# Altium integrated library Actel IGLOO.IntLib: 429 symbols (part 11 of 45)
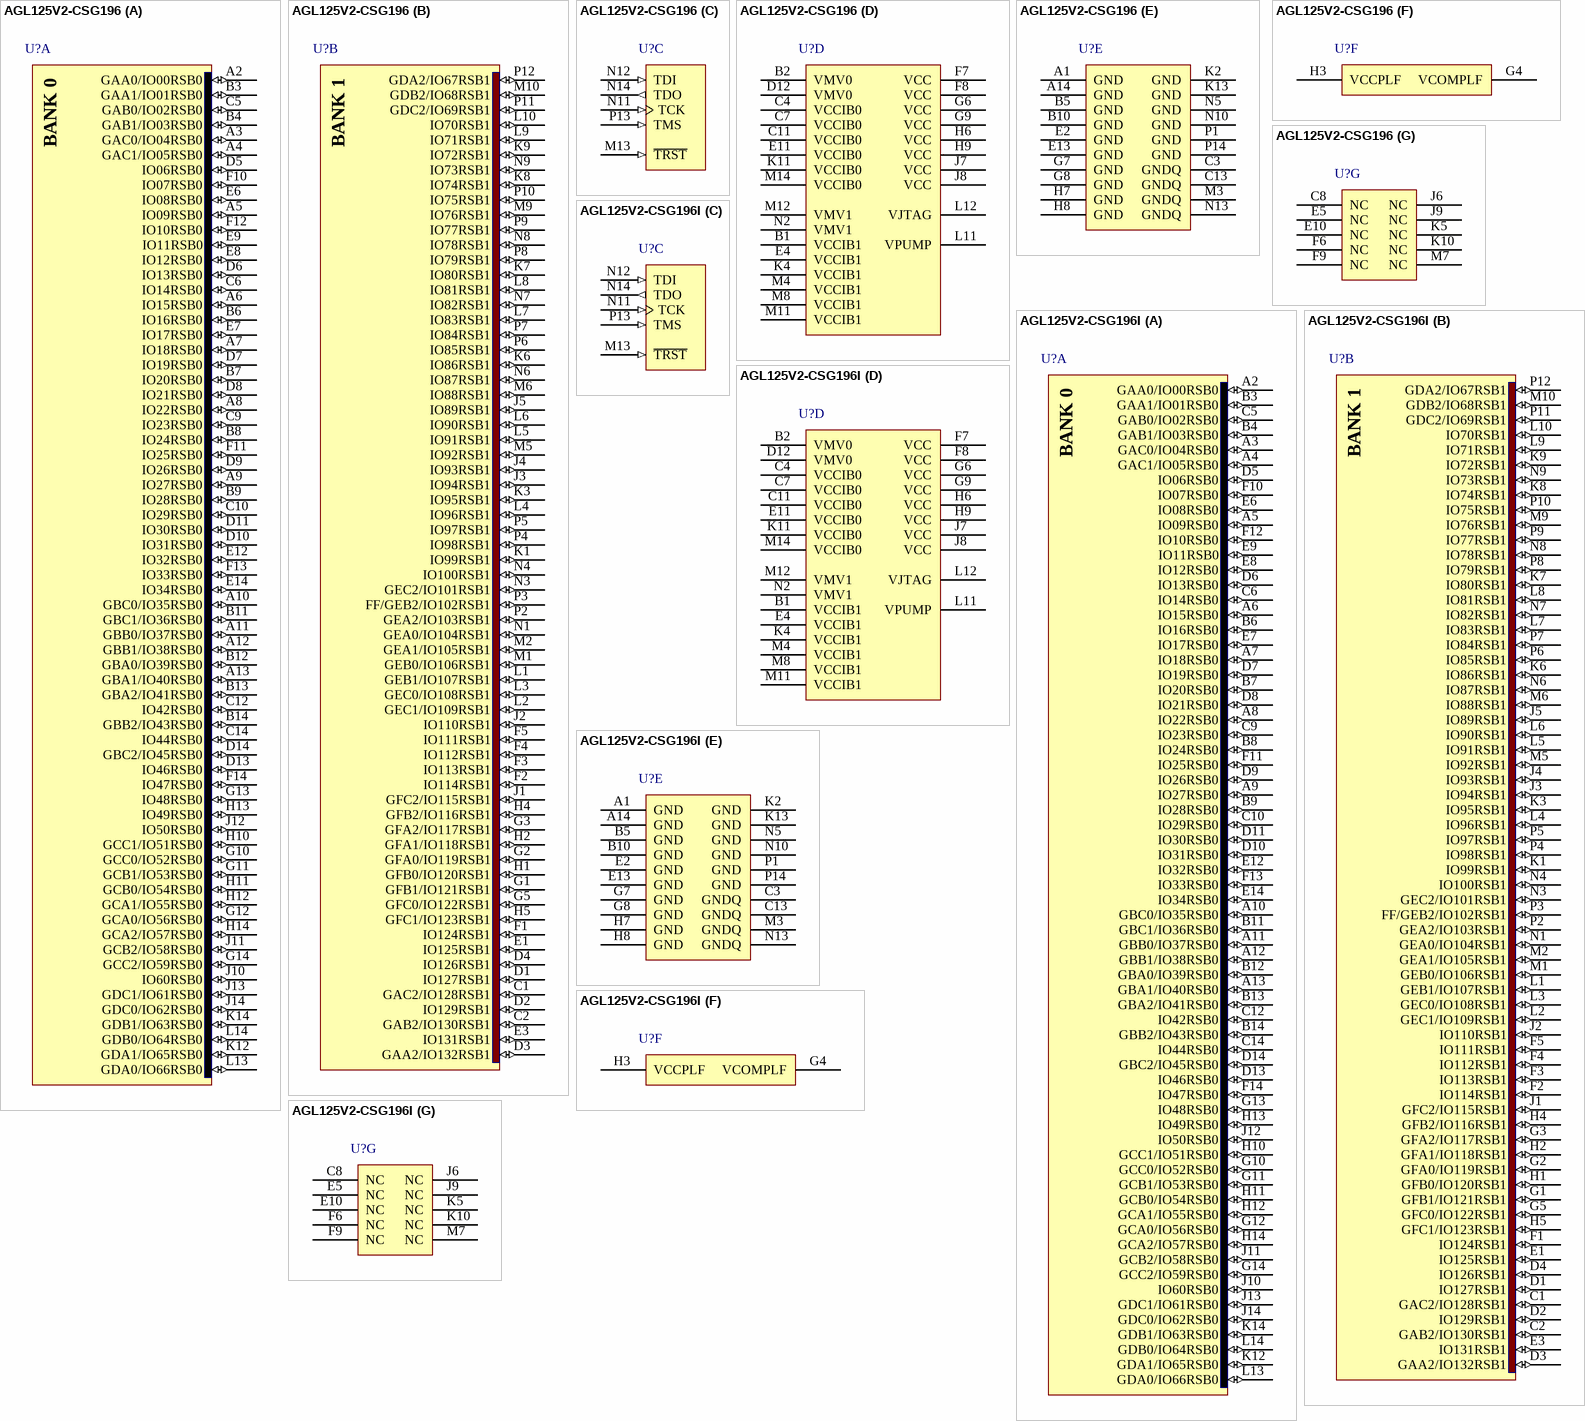
[diagram p262: symbols AGL125V2-CSG196 to AGL125V2-CSG196I]

## AGL125V2-CSG196
designator U?
IGLOO Low-Power Flash 1.2/1.5V FPGA with Flash*Freeze, 133 User IOs, 125K System Gates, 36Kbits RAM, 1Kbit Flash ROM, 1 PLL, 196-Pin CSP, Commercial Grade, Pb-Free; DatasheetVersion: v2.0, Nov-2009; PackageVersion: rev40, Jun-2011; PackageReference: CS196; PackageDescription: 196-Ball Chip Scale Ball Grid Array 0.5 mm Pitch (CS196); Code_JEDEC: MO-195-BE; ComponentLink1Description: Manufacturer URL; ComponentLink1URL: http://www.actel.com/; ComponentLink2Description: IGLOO Datasheet; ComponentLink2URL: http://www.actel.com/documents/IGLOO_DS.pdf; ComponentLink3Description: Package Mechanical Drawings; ComponentLink3URL: http://www.actel.com/documents/PckgMechDrwngs.pdf; ComponentLink4Description: IGLOO Documents; ComponentLink4URL: http://www.actel.com/products/igloo/docs.aspx
footprint CS196 (BGA, 196-Leads, Body 8x8mm, Pitch 0.5mm)
part A pins: A2 GAA0/IO00RSB0 (io), A3 GAC0/IO04RSB0 (io), A4 GAC1/IO05RSB0 (io), A5 IO09RSB0 (io), A6 IO15RSB0 (io), A7 IO18RSB0 (io), A8 IO22RSB0 (io), A9 IO27RSB0 (io), A10 GBC0/IO35RSB0 (io), A11 GBB0/IO37RSB0 (io), A12 GBB1/IO38RSB0 (io), A13 GBA1/IO40RSB0 (io), B3 GAA1/IO01RSB0 (io), B4 GAB1/IO03RSB0 (io), B6 IO16RSB0 (io), B7 IO20RSB0 (io), B8 IO24RSB0 (io), B9 IO28RSB0 (io), B11 GBC1/IO36RSB0 (io), B12 GBA0/IO39RSB0 (io), B13 GBA2/IO41RSB0 (io), B14 GBB2/IO43RSB0 (io), C5 GAB0/IO02RSB0 (io), C6 IO14RSB0 (io), C9 IO23RSB0 (io), C10 IO29RSB0 (io), C12 IO42RSB0 (io), C14 IO44RSB0 (io), D5 IO06RSB0 (io), D6 IO13RSB0 (io), D7 IO19RSB0 (io), D8 IO21RSB0 (io), D9 IO26RSB0 (io), D10 IO31RSB0 (io), D11 IO30RSB0 (io), D13 IO46RSB0 (io), D14 GBC2/IO45RSB0 (io), E6 IO08RSB0 (io), E7 IO17RSB0 (io), E8 IO12RSB0 (io), E9 IO11RSB0 (io), E12 IO32RSB0 (io), E14 IO34RSB0 (io), F10 IO07RSB0 (io), F11 IO25RSB0 (io), F12 IO10RSB0 (io), F13 IO33RSB0 (io), F14 IO47RSB0 (io), G10 GCC0/IO52RSB0 (io), G11 GCB1/IO53RSB0 (io), G12 GCA0/IO56RSB0 (io), G13 IO48RSB0 (io), G14 GCC2/IO59RSB0 (io), H10 GCC1/IO51RSB0 (io), H11 GCB0/IO54RSB0 (io), H12 GCA1/IO55RSB0 (io), H13 IO49RSB0 (io), H14 GCA2/IO57RSB0 (io), J10 IO60RSB0 (io), J11 GCB2/IO58RSB0 (io), J12 IO50RSB0 (io), J13 GDC1/IO61RSB0 (io), J14 GDC0/IO62RSB0 (io), K12 GDA1/IO65RSB0 (io), K14 GDB1/IO63RSB0 (io), L13 GDA0/IO66RSB0 (io), L14 GDB0/IO64RSB0 (io)
part B pins: C1 GAC2/IO128RSB1 (io), C2 GAB2/IO130RSB1 (io), D1 IO127RSB1 (io), D2 IO129RSB1 (io), D3 GAA2/IO132RSB1 (io), D4 IO126RSB1 (io), E1 IO125RSB1 (io), E3 IO131RSB1 (io), F1 IO124RSB1 (io), F2 IO114RSB1 (io), F3 IO113RSB1 (io), F4 IO112RSB1 (io), F5 IO111RSB1 (io), G1 GFB1/IO121RSB1 (io), G2 GFA0/IO119RSB1 (io), G3 GFA2/IO117RSB1 (io), G5 GFC0/IO122RSB1 (io), H1 GFB0/IO120RSB1 (io), H2 GFA1/IO118RSB1 (io), H4 GFB2/IO116RSB1 (io), H5 GFC1/IO123RSB1 (io), J1 GFC2/IO115RSB1 (io), J2 IO110RSB1 (io), J3 IO94RSB1 (io), J4 IO93RSB1 (io), J5 IO89RSB1 (io), K1 IO99RSB1 (io), K3 IO95RSB1 (io), K6 IO86RSB1 (io), K7 IO80RSB1 (io), K8 IO74RSB1 (io), K9 IO72RSB1 (io), L1 GEB1/IO107RSB1 (io), L2 GEC1/IO109RSB1 (io), L3 GEC0/IO108RSB1 (io), L4 IO96RSB1 (io), L5 IO91RSB1 (io), L6 IO90RSB1 (io), L7 IO83RSB1 (io), L8 IO81RSB1 (io), L9 IO71RSB1 (io), L10 IO70RSB1 (io), M1 GEB0/IO106RSB1 (io), M2 GEA1/IO105RSB1 (io), M5 IO92RSB1 (io), M6 IO88RSB1 (io), M9 IO76RSB1 (io), M10 GDB2/IO68RSB1 (io), N1 GEA0/IO104RSB1 (io), N3 GEC2/IO101RSB1 (io), N4 IO100RSB1 (io), N6 IO87RSB1 (io), N7 IO82RSB1 (io), N8 IO78RSB1 (io), N9 IO73RSB1 (io), P2 GEA2/IO103RSB1 (io), P3 FF/GEB2/IO102RSB1 (io), P4 IO98RSB1 (io), P5 IO97RSB1 (io), P6 IO85RSB1 (io), P7 IO84RSB1 (io), P8 IO79RSB1 (io), P9 IO77RSB1 (io), P10 IO75RSB1 (io), P11 GDC2/IO69RSB1 (io), P12 GDA2/IO67RSB1 (io)
part C pins: M13 ~{TRST} (in), N11 TCK (in), N12 TDI (in), N14 TDO (out), P13 TMS (in)
part D pins: B1 VCCIB1 (power), B2 VMV0 (power), C4 VCCIB0 (power), C7 VCCIB0 (power), C11 VCCIB0 (power), D12 VMV0 (power), E4 VCCIB1 (power), E11 VCCIB0 (power), F7 VCC (power), F8 VCC (power), G6 VCC (power), G9 VCC (power), H6 VCC (power), H9 VCC (power), J7 VCC (power), J8 VCC (power), K4 VCCIB1 (power), K11 VCCIB0 (power), L11 VPUMP (power), L12 VJTAG (power), M4 VCCIB1 (power), M8 VCCIB1 (power), M11 VCCIB1 (power), M12 VMV1 (power), M14 VCCIB0 (power), N2 VMV1 (power)
part E pins: A1 GND (power), A14 GND (power), B5 GND (power), B10 GND (power), C3 GNDQ (power), C13 GNDQ (power), E2 GND (power), E13 GND (power), G7 GND (power), G8 GND (power), H7 GND (power), H8 GND (power), K2 GND (power), K13 GND (power), M3 GNDQ (power), N5 GND (power), N10 GND (power), N13 GNDQ (power), P1 GND (power), P14 GND (power)
part F pins: G4 VCOMPLF (power), H3 VCCPLF (power)
part G pins: C8 NC, E5 NC, E10 NC, F6 NC, F9 NC, J6 NC, J9 NC, K5 NC, K10 NC, M7 NC
part A text: BANK 0
part B text: BANK 1

## AGL125V2-CSG196I
designator U?
IGLOO Low-Power Flash 1.2/1.5V FPGA with Flash*Freeze, 133 User IOs, 125K System Gates, 36Kbits RAM, 1Kbit Flash ROM, 1 PLL, 196-Pin CSP, Industrial Grade, Pb-Free; DatasheetVersion: v2.0, Nov-2009; PackageVersion: rev40, Jun-2011; PackageReference: CS196; PackageDescription: 196-Ball Chip Scale Ball Grid Array 0.5 mm Pitch (CS196); Code_JEDEC: MO-195-BE; ComponentLink1Description: Manufacturer URL; ComponentLink1URL: http://www.actel.com/; ComponentLink2Description: IGLOO Datasheet; ComponentLink2URL: http://www.actel.com/documents/IGLOO_DS.pdf; ComponentLink3Description: Package Mechanical Drawings; ComponentLink3URL: http://www.actel.com/documents/PckgMechDrwngs.pdf; ComponentLink4Description: IGLOO Documents; ComponentLink4URL: http://www.actel.com/products/igloo/docs.aspx
footprint CS196 (BGA, 196-Leads, Body 8x8mm, Pitch 0.5mm)
part A pins: A2 GAA0/IO00RSB0 (io), A3 GAC0/IO04RSB0 (io), A4 GAC1/IO05RSB0 (io), A5 IO09RSB0 (io), A6 IO15RSB0 (io), A7 IO18RSB0 (io), A8 IO22RSB0 (io), A9 IO27RSB0 (io), A10 GBC0/IO35RSB0 (io), A11 GBB0/IO37RSB0 (io), A12 GBB1/IO38RSB0 (io), A13 GBA1/IO40RSB0 (io), B3 GAA1/IO01RSB0 (io), B4 GAB1/IO03RSB0 (io), B6 IO16RSB0 (io), B7 IO20RSB0 (io), B8 IO24RSB0 (io), B9 IO28RSB0 (io), B11 GBC1/IO36RSB0 (io), B12 GBA0/IO39RSB0 (io), B13 GBA2/IO41RSB0 (io), B14 GBB2/IO43RSB0 (io), C5 GAB0/IO02RSB0 (io), C6 IO14RSB0 (io), C9 IO23RSB0 (io), C10 IO29RSB0 (io), C12 IO42RSB0 (io), C14 IO44RSB0 (io), D5 IO06RSB0 (io), D6 IO13RSB0 (io), D7 IO19RSB0 (io), D8 IO21RSB0 (io), D9 IO26RSB0 (io), D10 IO31RSB0 (io), D11 IO30RSB0 (io), D13 IO46RSB0 (io), D14 GBC2/IO45RSB0 (io), E6 IO08RSB0 (io), E7 IO17RSB0 (io), E8 IO12RSB0 (io), E9 IO11RSB0 (io), E12 IO32RSB0 (io), E14 IO34RSB0 (io), F10 IO07RSB0 (io), F11 IO25RSB0 (io), F12 IO10RSB0 (io), F13 IO33RSB0 (io), F14 IO47RSB0 (io), G10 GCC0/IO52RSB0 (io), G11 GCB1/IO53RSB0 (io), G12 GCA0/IO56RSB0 (io), G13 IO48RSB0 (io), G14 GCC2/IO59RSB0 (io), H10 GCC1/IO51RSB0 (io), H11 GCB0/IO54RSB0 (io), H12 GCA1/IO55RSB0 (io), H13 IO49RSB0 (io), H14 GCA2/IO57RSB0 (io), J10 IO60RSB0 (io), J11 GCB2/IO58RSB0 (io), J12 IO50RSB0 (io), J13 GDC1/IO61RSB0 (io), J14 GDC0/IO62RSB0 (io), K12 GDA1/IO65RSB0 (io), K14 GDB1/IO63RSB0 (io), L13 GDA0/IO66RSB0 (io), L14 GDB0/IO64RSB0 (io)
part B pins: C1 GAC2/IO128RSB1 (io), C2 GAB2/IO130RSB1 (io), D1 IO127RSB1 (io), D2 IO129RSB1 (io), D3 GAA2/IO132RSB1 (io), D4 IO126RSB1 (io), E1 IO125RSB1 (io), E3 IO131RSB1 (io), F1 IO124RSB1 (io), F2 IO114RSB1 (io), F3 IO113RSB1 (io), F4 IO112RSB1 (io), F5 IO111RSB1 (io), G1 GFB1/IO121RSB1 (io), G2 GFA0/IO119RSB1 (io), G3 GFA2/IO117RSB1 (io), G5 GFC0/IO122RSB1 (io), H1 GFB0/IO120RSB1 (io), H2 GFA1/IO118RSB1 (io), H4 GFB2/IO116RSB1 (io), H5 GFC1/IO123RSB1 (io), J1 GFC2/IO115RSB1 (io), J2 IO110RSB1 (io), J3 IO94RSB1 (io), J4 IO93RSB1 (io), J5 IO89RSB1 (io), K1 IO99RSB1 (io), K3 IO95RSB1 (io), K6 IO86RSB1 (io), K7 IO80RSB1 (io), K8 IO74RSB1 (io), K9 IO72RSB1 (io), L1 GEB1/IO107RSB1 (io), L2 GEC1/IO109RSB1 (io), L3 GEC0/IO108RSB1 (io), L4 IO96RSB1 (io), L5 IO91RSB1 (io), L6 IO90RSB1 (io), L7 IO83RSB1 (io), L8 IO81RSB1 (io), L9 IO71RSB1 (io), L10 IO70RSB1 (io), M1 GEB0/IO106RSB1 (io), M2 GEA1/IO105RSB1 (io), M5 IO92RSB1 (io), M6 IO88RSB1 (io), M9 IO76RSB1 (io), M10 GDB2/IO68RSB1 (io), N1 GEA0/IO104RSB1 (io), N3 GEC2/IO101RSB1 (io), N4 IO100RSB1 (io), N6 IO87RSB1 (io), N7 IO82RSB1 (io), N8 IO78RSB1 (io), N9 IO73RSB1 (io), P2 GEA2/IO103RSB1 (io), P3 FF/GEB2/IO102RSB1 (io), P4 IO98RSB1 (io), P5 IO97RSB1 (io), P6 IO85RSB1 (io), P7 IO84RSB1 (io), P8 IO79RSB1 (io), P9 IO77RSB1 (io), P10 IO75RSB1 (io), P11 GDC2/IO69RSB1 (io), P12 GDA2/IO67RSB1 (io)
part C pins: M13 ~{TRST} (in), N11 TCK (in), N12 TDI (in), N14 TDO (out), P13 TMS (in)
part D pins: B1 VCCIB1 (power), B2 VMV0 (power), C4 VCCIB0 (power), C7 VCCIB0 (power), C11 VCCIB0 (power), D12 VMV0 (power), E4 VCCIB1 (power), E11 VCCIB0 (power), F7 VCC (power), F8 VCC (power), G6 VCC (power), G9 VCC (power), H6 VCC (power), H9 VCC (power), J7 VCC (power), J8 VCC (power), K4 VCCIB1 (power), K11 VCCIB0 (power), L11 VPUMP (power), L12 VJTAG (power), M4 VCCIB1 (power), M8 VCCIB1 (power), M11 VCCIB1 (power), M12 VMV1 (power), M14 VCCIB0 (power), N2 VMV1 (power)
part E pins: A1 GND (power), A14 GND (power), B5 GND (power), B10 GND (power), C3 GNDQ (power), C13 GNDQ (power), E2 GND (power), E13 GND (power), G7 GND (power), G8 GND (power), H7 GND (power), H8 GND (power), K2 GND (power), K13 GND (power), M3 GNDQ (power), N5 GND (power), N10 GND (power), N13 GNDQ (power), P1 GND (power), P14 GND (power)
part F pins: G4 VCOMPLF (power), H3 VCCPLF (power)
part G pins: C8 NC, E5 NC, E10 NC, F6 NC, F9 NC, J6 NC, J9 NC, K5 NC, K10 NC, M7 NC
part A text: BANK 0
part B text: BANK 1

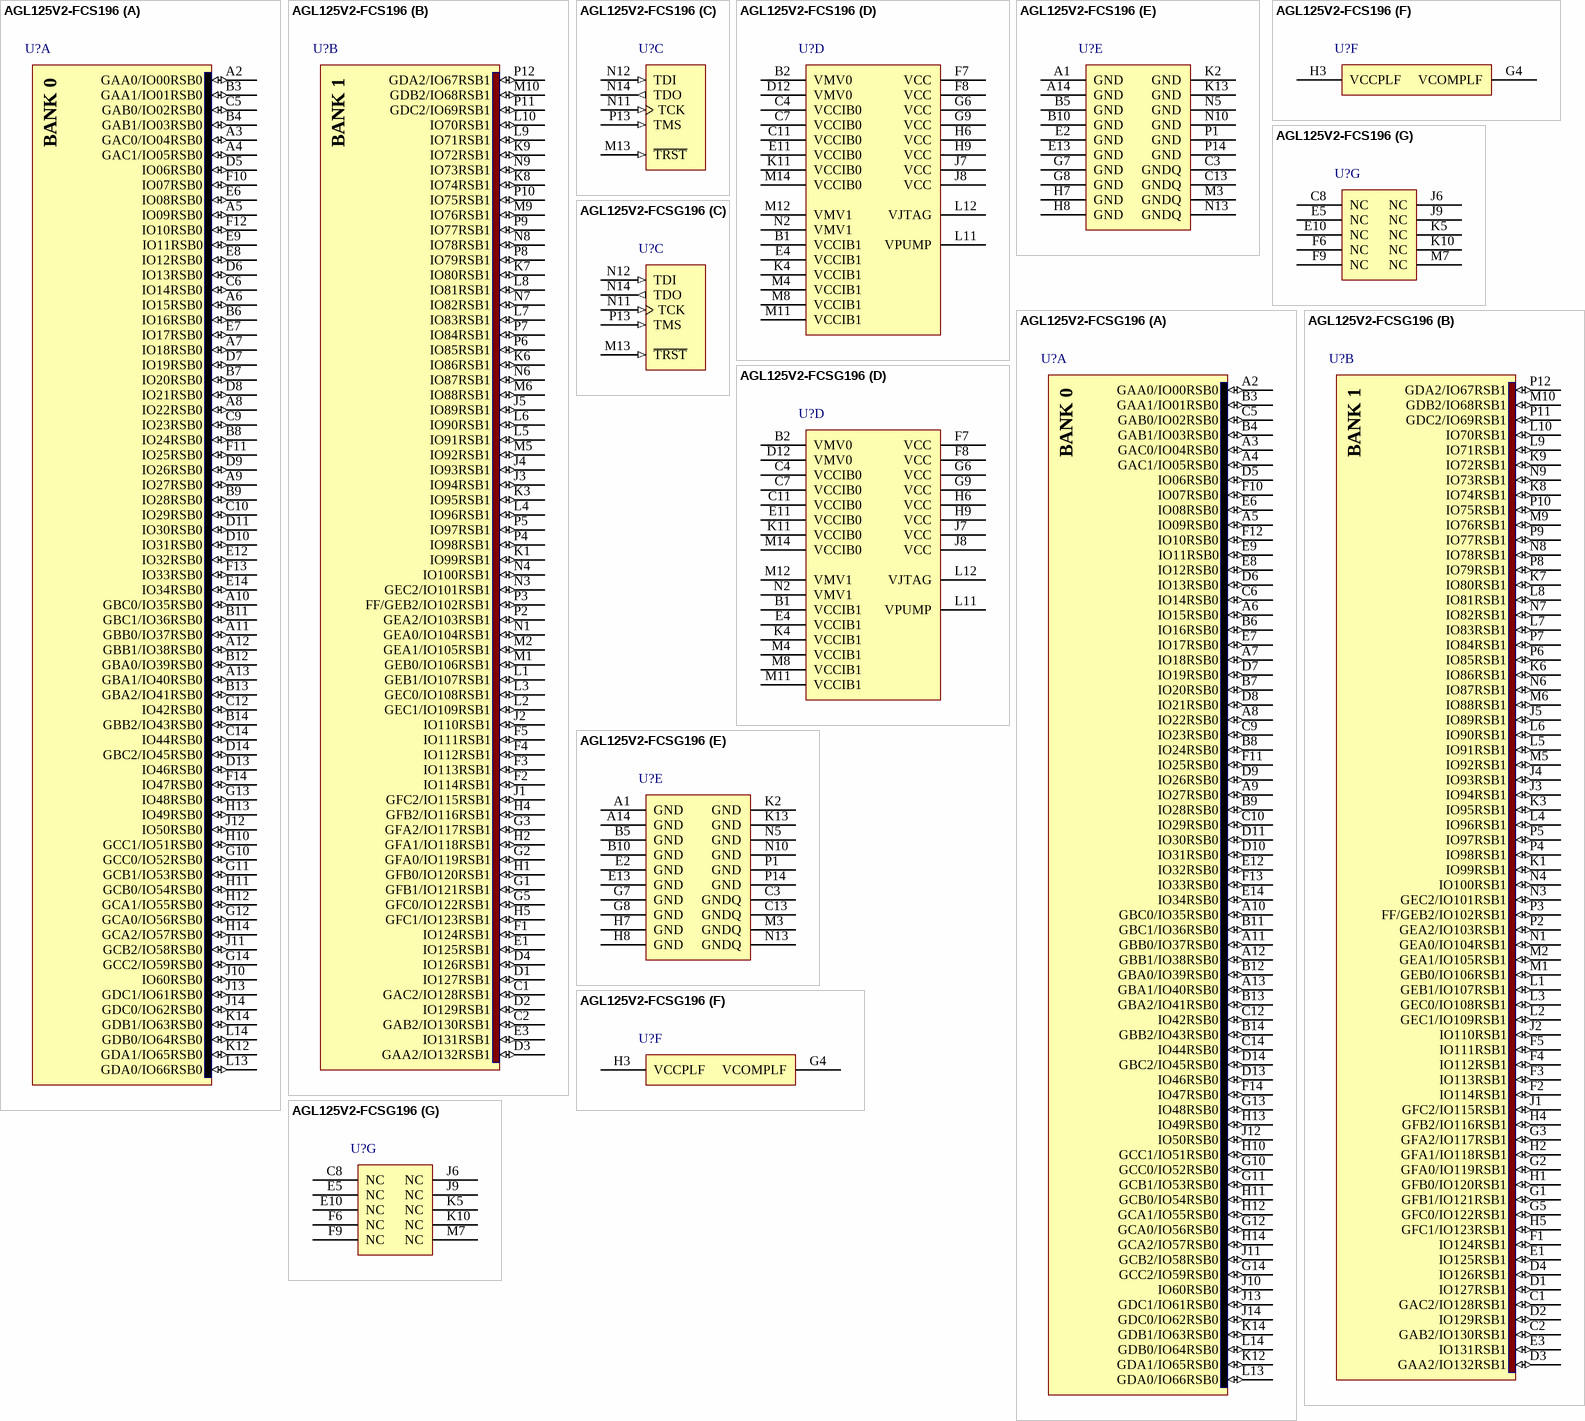
[diagram p33: symbols AGL125V2-FCS196 to AGL125V2-FCSG196]

## AGL125V2-FCS196
designator U?
IGLOO Low-Power Flash 1.2/1.5V FPGA with Flash*Freeze, 133 User IOs, 125K System Gates, 36Kbits RAM, 1Kbit Flash ROM, 1 PLL, 196-Pin CSP, F Speed Grade, Commercial Grade; DatasheetVersion: v1.2, Feb-2008; PackageVersion: rev40, Jun-2011; PackageReference: CS196; PackageDescription: 196-Ball Chip Scale Ball Grid Array 0.5 mm Pitch (CS196); Code_JEDEC: MO-195-BE; ComponentLink1Description: Manufacturer URL; ComponentLink1URL: http://www.actel.com/; ComponentLink2Description: IGLOO Datasheet; ComponentLink2URL: http://www.actel.com/documents/IGLOO_DS.pdf; ComponentLink3Description: Package Mechanical Drawings; ComponentLink3URL: http://www.actel.com/documents/PckgMechDrwngs.pdf; ComponentLink4Description: IGLOO Documents; ComponentLink4URL: http://www.actel.com/products/igloo/docs.aspx
footprint CS196 (BGA, 196-Leads, Body 8x8mm, Pitch 0.5mm)
part A pins: A2 GAA0/IO00RSB0 (io), A3 GAC0/IO04RSB0 (io), A4 GAC1/IO05RSB0 (io), A5 IO09RSB0 (io), A6 IO15RSB0 (io), A7 IO18RSB0 (io), A8 IO22RSB0 (io), A9 IO27RSB0 (io), A10 GBC0/IO35RSB0 (io), A11 GBB0/IO37RSB0 (io), A12 GBB1/IO38RSB0 (io), A13 GBA1/IO40RSB0 (io), B3 GAA1/IO01RSB0 (io), B4 GAB1/IO03RSB0 (io), B6 IO16RSB0 (io), B7 IO20RSB0 (io), B8 IO24RSB0 (io), B9 IO28RSB0 (io), B11 GBC1/IO36RSB0 (io), B12 GBA0/IO39RSB0 (io), B13 GBA2/IO41RSB0 (io), B14 GBB2/IO43RSB0 (io), C5 GAB0/IO02RSB0 (io), C6 IO14RSB0 (io), C9 IO23RSB0 (io), C10 IO29RSB0 (io), C12 IO42RSB0 (io), C14 IO44RSB0 (io), D5 IO06RSB0 (io), D6 IO13RSB0 (io), D7 IO19RSB0 (io), D8 IO21RSB0 (io), D9 IO26RSB0 (io), D10 IO31RSB0 (io), D11 IO30RSB0 (io), D13 IO46RSB0 (io), D14 GBC2/IO45RSB0 (io), E6 IO08RSB0 (io), E7 IO17RSB0 (io), E8 IO12RSB0 (io), E9 IO11RSB0 (io), E12 IO32RSB0 (io), E14 IO34RSB0 (io), F10 IO07RSB0 (io), F11 IO25RSB0 (io), F12 IO10RSB0 (io), F13 IO33RSB0 (io), F14 IO47RSB0 (io), G10 GCC0/IO52RSB0 (io), G11 GCB1/IO53RSB0 (io), G12 GCA0/IO56RSB0 (io), G13 IO48RSB0 (io), G14 GCC2/IO59RSB0 (io), H10 GCC1/IO51RSB0 (io), H11 GCB0/IO54RSB0 (io), H12 GCA1/IO55RSB0 (io), H13 IO49RSB0 (io), H14 GCA2/IO57RSB0 (io), J10 IO60RSB0 (io), J11 GCB2/IO58RSB0 (io), J12 IO50RSB0 (io), J13 GDC1/IO61RSB0 (io), J14 GDC0/IO62RSB0 (io), K12 GDA1/IO65RSB0 (io), K14 GDB1/IO63RSB0 (io), L13 GDA0/IO66RSB0 (io), L14 GDB0/IO64RSB0 (io)
part B pins: C1 GAC2/IO128RSB1 (io), C2 GAB2/IO130RSB1 (io), D1 IO127RSB1 (io), D2 IO129RSB1 (io), D3 GAA2/IO132RSB1 (io), D4 IO126RSB1 (io), E1 IO125RSB1 (io), E3 IO131RSB1 (io), F1 IO124RSB1 (io), F2 IO114RSB1 (io), F3 IO113RSB1 (io), F4 IO112RSB1 (io), F5 IO111RSB1 (io), G1 GFB1/IO121RSB1 (io), G2 GFA0/IO119RSB1 (io), G3 GFA2/IO117RSB1 (io), G5 GFC0/IO122RSB1 (io), H1 GFB0/IO120RSB1 (io), H2 GFA1/IO118RSB1 (io), H4 GFB2/IO116RSB1 (io), H5 GFC1/IO123RSB1 (io), J1 GFC2/IO115RSB1 (io), J2 IO110RSB1 (io), J3 IO94RSB1 (io), J4 IO93RSB1 (io), J5 IO89RSB1 (io), K1 IO99RSB1 (io), K3 IO95RSB1 (io), K6 IO86RSB1 (io), K7 IO80RSB1 (io), K8 IO74RSB1 (io), K9 IO72RSB1 (io), L1 GEB1/IO107RSB1 (io), L2 GEC1/IO109RSB1 (io), L3 GEC0/IO108RSB1 (io), L4 IO96RSB1 (io), L5 IO91RSB1 (io), L6 IO90RSB1 (io), L7 IO83RSB1 (io), L8 IO81RSB1 (io), L9 IO71RSB1 (io), L10 IO70RSB1 (io), M1 GEB0/IO106RSB1 (io), M2 GEA1/IO105RSB1 (io), M5 IO92RSB1 (io), M6 IO88RSB1 (io), M9 IO76RSB1 (io), M10 GDB2/IO68RSB1 (io), N1 GEA0/IO104RSB1 (io), N3 GEC2/IO101RSB1 (io), N4 IO100RSB1 (io), N6 IO87RSB1 (io), N7 IO82RSB1 (io), N8 IO78RSB1 (io), N9 IO73RSB1 (io), P2 GEA2/IO103RSB1 (io), P3 FF/GEB2/IO102RSB1 (io), P4 IO98RSB1 (io), P5 IO97RSB1 (io), P6 IO85RSB1 (io), P7 IO84RSB1 (io), P8 IO79RSB1 (io), P9 IO77RSB1 (io), P10 IO75RSB1 (io), P11 GDC2/IO69RSB1 (io), P12 GDA2/IO67RSB1 (io)
part C pins: M13 ~{TRST} (in), N11 TCK (in), N12 TDI (in), N14 TDO (out), P13 TMS (in)
part D pins: B1 VCCIB1 (power), B2 VMV0 (power), C4 VCCIB0 (power), C7 VCCIB0 (power), C11 VCCIB0 (power), D12 VMV0 (power), E4 VCCIB1 (power), E11 VCCIB0 (power), F7 VCC (power), F8 VCC (power), G6 VCC (power), G9 VCC (power), H6 VCC (power), H9 VCC (power), J7 VCC (power), J8 VCC (power), K4 VCCIB1 (power), K11 VCCIB0 (power), L11 VPUMP (power), L12 VJTAG (power), M4 VCCIB1 (power), M8 VCCIB1 (power), M11 VCCIB1 (power), M12 VMV1 (power), M14 VCCIB0 (power), N2 VMV1 (power)
part E pins: A1 GND (power), A14 GND (power), B5 GND (power), B10 GND (power), C3 GNDQ (power), C13 GNDQ (power), E2 GND (power), E13 GND (power), G7 GND (power), G8 GND (power), H7 GND (power), H8 GND (power), K2 GND (power), K13 GND (power), M3 GNDQ (power), N5 GND (power), N10 GND (power), N13 GNDQ (power), P1 GND (power), P14 GND (power)
part F pins: G4 VCOMPLF (power), H3 VCCPLF (power)
part G pins: C8 NC, E5 NC, E10 NC, F6 NC, F9 NC, J6 NC, J9 NC, K5 NC, K10 NC, M7 NC
part A text: BANK 0
part B text: BANK 1

## AGL125V2-FCSG196
designator U?
IGLOO Low-Power Flash 1.2/1.5V FPGA with Flash*Freeze, 133 User IOs, 125K System Gates, 36Kbits RAM, 1Kbit Flash ROM, 1 PLL, 196-Pin CSP, F Speed Grade, Commercial Grade, Pb-Free; DatasheetVersion: v1.2, Feb-2008; PackageVersion: rev40, Jun-2011; PackageReference: CS196; PackageDescription: 196-Ball Chip Scale Ball Grid Array 0.5 mm Pitch (CS196); Code_JEDEC: MO-195-BE; ComponentLink1Description: Manufacturer URL; ComponentLink1URL: http://www.actel.com/; ComponentLink2Description: IGLOO Datasheet; ComponentLink2URL: http://www.actel.com/documents/IGLOO_DS.pdf; ComponentLink3Description: Package Mechanical Drawings; ComponentLink3URL: http://www.actel.com/documents/PckgMechDrwngs.pdf; ComponentLink4Description: IGLOO Documents; ComponentLink4URL: http://www.actel.com/products/igloo/docs.aspx
footprint CS196 (BGA, 196-Leads, Body 8x8mm, Pitch 0.5mm)
part A pins: A2 GAA0/IO00RSB0 (io), A3 GAC0/IO04RSB0 (io), A4 GAC1/IO05RSB0 (io), A5 IO09RSB0 (io), A6 IO15RSB0 (io), A7 IO18RSB0 (io), A8 IO22RSB0 (io), A9 IO27RSB0 (io), A10 GBC0/IO35RSB0 (io), A11 GBB0/IO37RSB0 (io), A12 GBB1/IO38RSB0 (io), A13 GBA1/IO40RSB0 (io), B3 GAA1/IO01RSB0 (io), B4 GAB1/IO03RSB0 (io), B6 IO16RSB0 (io), B7 IO20RSB0 (io), B8 IO24RSB0 (io), B9 IO28RSB0 (io), B11 GBC1/IO36RSB0 (io), B12 GBA0/IO39RSB0 (io), B13 GBA2/IO41RSB0 (io), B14 GBB2/IO43RSB0 (io), C5 GAB0/IO02RSB0 (io), C6 IO14RSB0 (io), C9 IO23RSB0 (io), C10 IO29RSB0 (io), C12 IO42RSB0 (io), C14 IO44RSB0 (io), D5 IO06RSB0 (io), D6 IO13RSB0 (io), D7 IO19RSB0 (io), D8 IO21RSB0 (io), D9 IO26RSB0 (io), D10 IO31RSB0 (io), D11 IO30RSB0 (io), D13 IO46RSB0 (io), D14 GBC2/IO45RSB0 (io), E6 IO08RSB0 (io), E7 IO17RSB0 (io), E8 IO12RSB0 (io), E9 IO11RSB0 (io), E12 IO32RSB0 (io), E14 IO34RSB0 (io), F10 IO07RSB0 (io), F11 IO25RSB0 (io), F12 IO10RSB0 (io), F13 IO33RSB0 (io), F14 IO47RSB0 (io), G10 GCC0/IO52RSB0 (io), G11 GCB1/IO53RSB0 (io), G12 GCA0/IO56RSB0 (io), G13 IO48RSB0 (io), G14 GCC2/IO59RSB0 (io), H10 GCC1/IO51RSB0 (io), H11 GCB0/IO54RSB0 (io), H12 GCA1/IO55RSB0 (io), H13 IO49RSB0 (io), H14 GCA2/IO57RSB0 (io), J10 IO60RSB0 (io), J11 GCB2/IO58RSB0 (io), J12 IO50RSB0 (io), J13 GDC1/IO61RSB0 (io), J14 GDC0/IO62RSB0 (io), K12 GDA1/IO65RSB0 (io), K14 GDB1/IO63RSB0 (io), L13 GDA0/IO66RSB0 (io), L14 GDB0/IO64RSB0 (io)
part B pins: C1 GAC2/IO128RSB1 (io), C2 GAB2/IO130RSB1 (io), D1 IO127RSB1 (io), D2 IO129RSB1 (io), D3 GAA2/IO132RSB1 (io), D4 IO126RSB1 (io), E1 IO125RSB1 (io), E3 IO131RSB1 (io), F1 IO124RSB1 (io), F2 IO114RSB1 (io), F3 IO113RSB1 (io), F4 IO112RSB1 (io), F5 IO111RSB1 (io), G1 GFB1/IO121RSB1 (io), G2 GFA0/IO119RSB1 (io), G3 GFA2/IO117RSB1 (io), G5 GFC0/IO122RSB1 (io), H1 GFB0/IO120RSB1 (io), H2 GFA1/IO118RSB1 (io), H4 GFB2/IO116RSB1 (io), H5 GFC1/IO123RSB1 (io), J1 GFC2/IO115RSB1 (io), J2 IO110RSB1 (io), J3 IO94RSB1 (io), J4 IO93RSB1 (io), J5 IO89RSB1 (io), K1 IO99RSB1 (io), K3 IO95RSB1 (io), K6 IO86RSB1 (io), K7 IO80RSB1 (io), K8 IO74RSB1 (io), K9 IO72RSB1 (io), L1 GEB1/IO107RSB1 (io), L2 GEC1/IO109RSB1 (io), L3 GEC0/IO108RSB1 (io), L4 IO96RSB1 (io), L5 IO91RSB1 (io), L6 IO90RSB1 (io), L7 IO83RSB1 (io), L8 IO81RSB1 (io), L9 IO71RSB1 (io), L10 IO70RSB1 (io), M1 GEB0/IO106RSB1 (io), M2 GEA1/IO105RSB1 (io), M5 IO92RSB1 (io), M6 IO88RSB1 (io), M9 IO76RSB1 (io), M10 GDB2/IO68RSB1 (io), N1 GEA0/IO104RSB1 (io), N3 GEC2/IO101RSB1 (io), N4 IO100RSB1 (io), N6 IO87RSB1 (io), N7 IO82RSB1 (io), N8 IO78RSB1 (io), N9 IO73RSB1 (io), P2 GEA2/IO103RSB1 (io), P3 FF/GEB2/IO102RSB1 (io), P4 IO98RSB1 (io), P5 IO97RSB1 (io), P6 IO85RSB1 (io), P7 IO84RSB1 (io), P8 IO79RSB1 (io), P9 IO77RSB1 (io), P10 IO75RSB1 (io), P11 GDC2/IO69RSB1 (io), P12 GDA2/IO67RSB1 (io)
part C pins: M13 ~{TRST} (in), N11 TCK (in), N12 TDI (in), N14 TDO (out), P13 TMS (in)
part D pins: B1 VCCIB1 (power), B2 VMV0 (power), C4 VCCIB0 (power), C7 VCCIB0 (power), C11 VCCIB0 (power), D12 VMV0 (power), E4 VCCIB1 (power), E11 VCCIB0 (power), F7 VCC (power), F8 VCC (power), G6 VCC (power), G9 VCC (power), H6 VCC (power), H9 VCC (power), J7 VCC (power), J8 VCC (power), K4 VCCIB1 (power), K11 VCCIB0 (power), L11 VPUMP (power), L12 VJTAG (power), M4 VCCIB1 (power), M8 VCCIB1 (power), M11 VCCIB1 (power), M12 VMV1 (power), M14 VCCIB0 (power), N2 VMV1 (power)
part E pins: A1 GND (power), A14 GND (power), B5 GND (power), B10 GND (power), C3 GNDQ (power), C13 GNDQ (power), E2 GND (power), E13 GND (power), G7 GND (power), G8 GND (power), H7 GND (power), H8 GND (power), K2 GND (power), K13 GND (power), M3 GNDQ (power), N5 GND (power), N10 GND (power), N13 GNDQ (power), P1 GND (power), P14 GND (power)
part F pins: G4 VCOMPLF (power), H3 VCCPLF (power)
part G pins: C8 NC, E5 NC, E10 NC, F6 NC, F9 NC, J6 NC, J9 NC, K5 NC, K10 NC, M7 NC
part A text: BANK 0
part B text: BANK 1

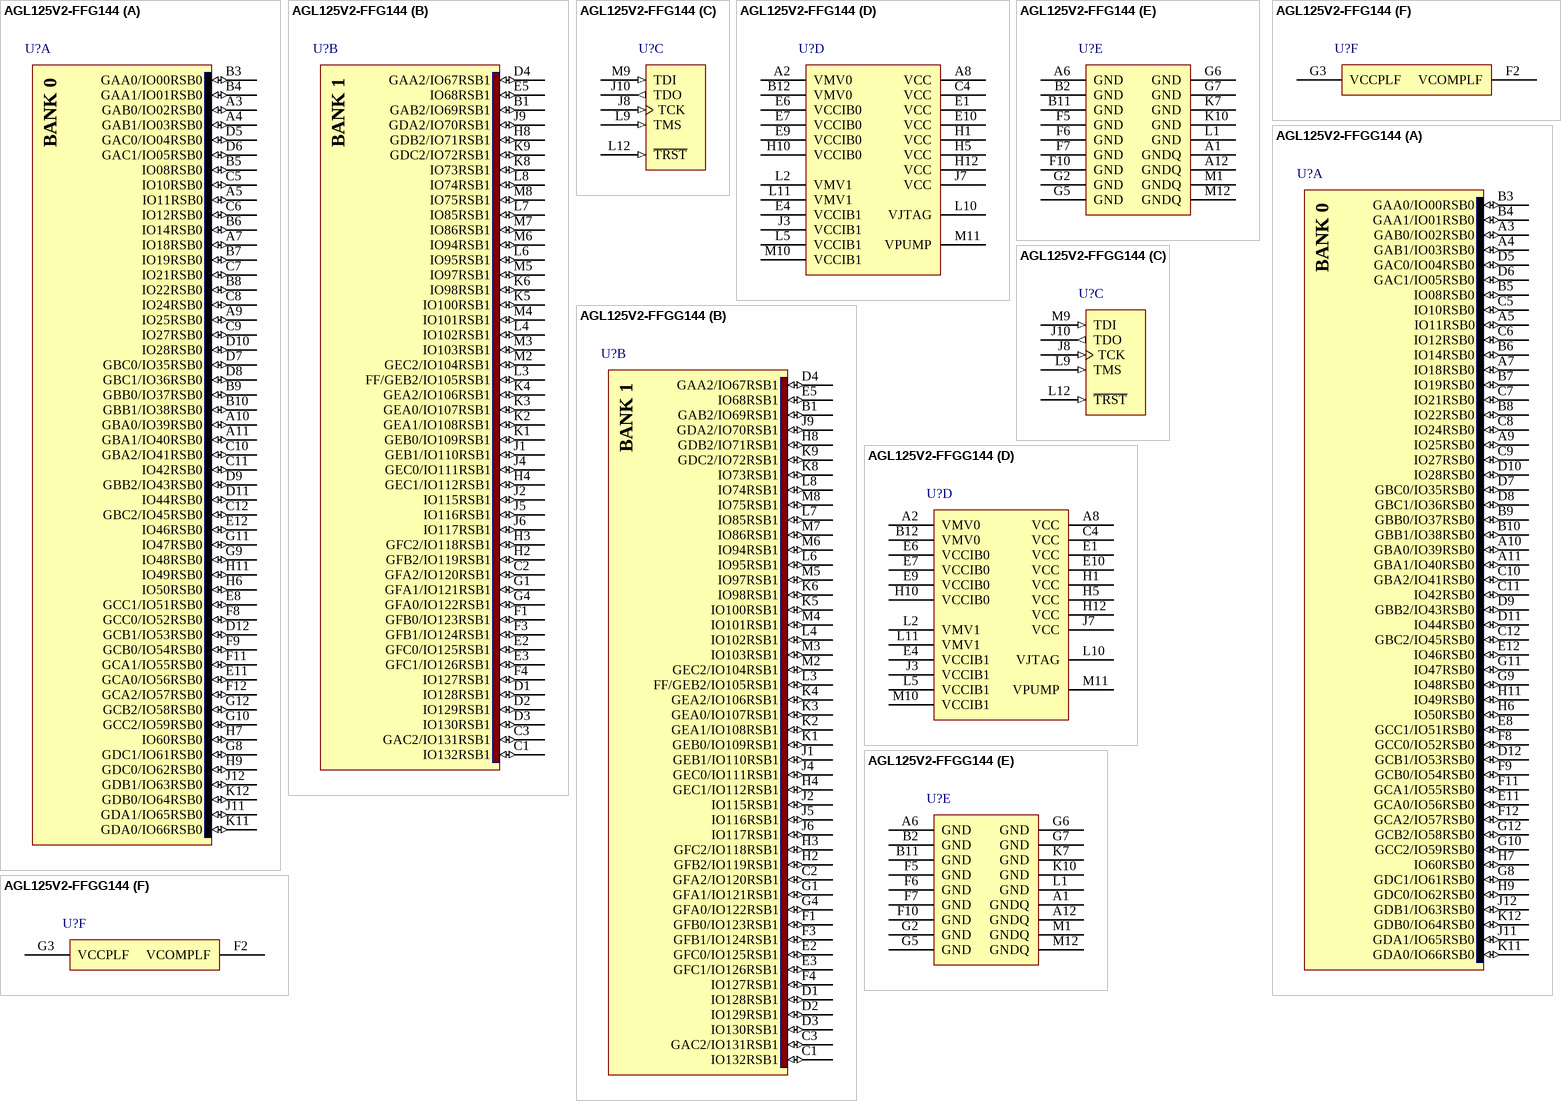
[diagram p34: symbols AGL125V2-FFG144 to AGL125V2-FFGG144]

## AGL125V2-FFG144
designator U?
IGLOO Low-Power Flash 1.2/1.5V FPGA with Flash*Freeze, 97 User IOs, 125K System Gates, 36Kbits RAM, 1Kbit Flash ROM, 1 PLL, 144-Pin FBGA, F Speed Grade, Commercial Grade; DatasheetVersion: v1.2, Feb-2008; PackageVersion: rev39, Aug-2010; PackageReference: FG144; PackageDescription: 144-Ball Fine Pitch Plastic Ball Grid Array (FG144); Code_JEDEC: MO-192-DAD-1; ComponentLink1Description: Manufacturer URL; ComponentLink1URL: http://www.actel.com/; ComponentLink2Description: IGLOO Datasheet; ComponentLink2URL: http://www.actel.com/documents/IGLOO_DS.pdf; ComponentLink3Description: Package Mechanical Drawings; ComponentLink3URL: http://www.actel.com/documents/PckgMechDrwngs.pdf; ComponentLink4Description: IGLOO Documents; ComponentLink4URL: http://www.actel.com/products/igloo/docs.aspx
footprint FG144 (BGA, 144-Leads, Body 13x13mm, Pitch 1mm)
part A pins: A3 GAB0/IO02RSB0 (io), A4 GAB1/IO03RSB0 (io), A5 IO11RSB0 (io), A7 IO18RSB0 (io), A9 IO25RSB0 (io), A10 GBA0/IO39RSB0 (io), A11 GBA1/IO40RSB0 (io), B3 GAA0/IO00RSB0 (io), B4 GAA1/IO01RSB0 (io), B5 IO08RSB0 (io), B6 IO14RSB0 (io), B7 IO19RSB0 (io), B8 IO22RSB0 (io), B9 GBB0/IO37RSB0 (io), B10 GBB1/IO38RSB0 (io), C5 IO10RSB0 (io), C6 IO12RSB0 (io), C7 IO21RSB0 (io), C8 IO24RSB0 (io), C9 IO27RSB0 (io), C10 GBA2/IO41RSB0 (io), C11 IO42RSB0 (io), C12 GBC2/IO45RSB0 (io), D5 GAC0/IO04RSB0 (io), D6 GAC1/IO05RSB0 (io), D7 GBC0/IO35RSB0 (io), D8 GBC1/IO36RSB0 (io), D9 GBB2/IO43RSB0 (io), D10 IO28RSB0 (io), D11 IO44RSB0 (io), D12 GCB1/IO53RSB0 (io), E8 GCC1/IO51RSB0 (io), E11 GCA0/IO56RSB0 (io), E12 IO46RSB0 (io), F8 GCC0/IO52RSB0 (io), F9 GCB0/IO54RSB0 (io), F11 GCA1/IO55RSB0 (io), F12 GCA2/IO57RSB0 (io), G8 GDC1/IO61RSB0 (io), G9 IO48RSB0 (io), G10 GCC2/IO59RSB0 (io), G11 IO47RSB0 (io), G12 GCB2/IO58RSB0 (io), H6 IO50RSB0 (io), H7 IO60RSB0 (io), H9 GDC0/IO62RSB0 (io), H11 IO49RSB0 (io), J11 GDA1/IO65RSB0 (io), J12 GDB1/IO63RSB0 (io), K11 GDA0/IO66RSB0 (io), K12 GDB0/IO64RSB0 (io)
part B pins: B1 GAB2/IO69RSB1 (io), C1 IO132RSB1 (io), C2 GFA2/IO120RSB1 (io), C3 GAC2/IO131RSB1 (io), D1 IO128RSB1 (io), D2 IO129RSB1 (io), D3 IO130RSB1 (io), D4 GAA2/IO67RSB1 (io), E2 GFC0/IO125RSB1 (io), E3 GFC1/IO126RSB1 (io), E5 IO68RSB1 (io), F1 GFB0/IO123RSB1 (io), F3 GFB1/IO124RSB1 (io), F4 IO127RSB1 (io), G1 GFA1/IO121RSB1 (io), G4 GFA0/IO122RSB1 (io), H2 GFB2/IO119RSB1 (io), H3 GFC2/IO118RSB1 (io), H4 GEC1/IO112RSB1 (io), H8 GDB2/IO71RSB1 (io), J1 GEB1/IO110RSB1 (io), J2 IO115RSB1 (io), J4 GEC0/IO111RSB1 (io), J5 IO116RSB1 (io), J6 IO117RSB1 (io), J9 GDA2/IO70RSB1 (io), K1 GEB0/IO109RSB1 (io), K2 GEA1/IO108RSB1 (io), K3 GEA0/IO107RSB1 (io), K4 GEA2/IO106RSB1 (io), K5 IO100RSB1 (io), K6 IO98RSB1 (io), K8 IO73RSB1 (io), K9 GDC2/IO72RSB1 (io), L3 FF/GEB2/IO105RSB1 (io), L4 IO102RSB1 (io), L6 IO95RSB1 (io), L7 IO85RSB1 (io), L8 IO74RSB1 (io), M2 GEC2/IO104RSB1 (io), M3 IO103RSB1 (io), M4 IO101RSB1 (io), M5 IO97RSB1 (io), M6 IO94RSB1 (io), M7 IO86RSB1 (io), M8 IO75RSB1 (io)
part C pins: J8 TCK (in), J10 TDO (out), L9 TMS (in), L12 ~{TRST} (in), M9 TDI (in)
part D pins: A2 VMV0 (power), A8 VCC (power), B12 VMV0 (power), C4 VCC (power), E1 VCC (power), E4 VCCIB1 (power), E6 VCCIB0 (power), E7 VCCIB0 (power), E9 VCCIB0 (power), E10 VCC (power), H1 VCC (power), H5 VCC (power), H10 VCCIB0 (power), H12 VCC (power), J3 VCCIB1 (power), J7 VCC (power), L2 VMV1 (power), L5 VCCIB1 (power), L10 VJTAG (power), L11 VMV1 (power), M10 VCCIB1 (power), M11 VPUMP (power)
part E pins: A1 GNDQ (power), A6 GND (power), A12 GNDQ (power), B2 GND (power), B11 GND (power), F5 GND (power), F6 GND (power), F7 GND (power), F10 GND (power), G2 GND (power), G5 GND (power), G6 GND (power), G7 GND (power), K7 GND (power), K10 GND (power), L1 GND (power), M1 GNDQ (power), M12 GNDQ (power)
part F pins: F2 VCOMPLF (power), G3 VCCPLF (power)
part A text: BANK 0
part B text: BANK 1

## AGL125V2-FFGG144
designator U?
IGLOO Low-Power Flash 1.2/1.5V FPGA with Flash*Freeze, 97 User IOs, 125K System Gates, 36Kbits RAM, 1Kbit Flash ROM, 1 PLL, 144-Pin FBGA, F Speed Grade, Commercial Grade, Pb-Free; DatasheetVersion: v1.2, Feb-2008; PackageVersion: rev39, Aug-2010; PackageReference: FG144; PackageDescription: 144-Ball Fine Pitch Plastic Ball Grid Array (FG144); Code_JEDEC: MO-192-DAD-1; ComponentLink1Description: Manufacturer URL; ComponentLink1URL: http://www.actel.com/; ComponentLink2Description: IGLOO Datasheet; ComponentLink2URL: http://www.actel.com/documents/IGLOO_DS.pdf; ComponentLink3Description: Package Mechanical Drawings; ComponentLink3URL: http://www.actel.com/documents/PckgMechDrwngs.pdf; ComponentLink4Description: IGLOO Documents; ComponentLink4URL: http://www.actel.com/products/igloo/docs.aspx
footprint FG144 (BGA, 144-Leads, Body 13x13mm, Pitch 1mm)
part A pins: A3 GAB0/IO02RSB0 (io), A4 GAB1/IO03RSB0 (io), A5 IO11RSB0 (io), A7 IO18RSB0 (io), A9 IO25RSB0 (io), A10 GBA0/IO39RSB0 (io), A11 GBA1/IO40RSB0 (io), B3 GAA0/IO00RSB0 (io), B4 GAA1/IO01RSB0 (io), B5 IO08RSB0 (io), B6 IO14RSB0 (io), B7 IO19RSB0 (io), B8 IO22RSB0 (io), B9 GBB0/IO37RSB0 (io), B10 GBB1/IO38RSB0 (io), C5 IO10RSB0 (io), C6 IO12RSB0 (io), C7 IO21RSB0 (io), C8 IO24RSB0 (io), C9 IO27RSB0 (io), C10 GBA2/IO41RSB0 (io), C11 IO42RSB0 (io), C12 GBC2/IO45RSB0 (io), D5 GAC0/IO04RSB0 (io), D6 GAC1/IO05RSB0 (io), D7 GBC0/IO35RSB0 (io), D8 GBC1/IO36RSB0 (io), D9 GBB2/IO43RSB0 (io), D10 IO28RSB0 (io), D11 IO44RSB0 (io), D12 GCB1/IO53RSB0 (io), E8 GCC1/IO51RSB0 (io), E11 GCA0/IO56RSB0 (io), E12 IO46RSB0 (io), F8 GCC0/IO52RSB0 (io), F9 GCB0/IO54RSB0 (io), F11 GCA1/IO55RSB0 (io), F12 GCA2/IO57RSB0 (io), G8 GDC1/IO61RSB0 (io), G9 IO48RSB0 (io), G10 GCC2/IO59RSB0 (io), G11 IO47RSB0 (io), G12 GCB2/IO58RSB0 (io), H6 IO50RSB0 (io), H7 IO60RSB0 (io), H9 GDC0/IO62RSB0 (io), H11 IO49RSB0 (io), J11 GDA1/IO65RSB0 (io), J12 GDB1/IO63RSB0 (io), K11 GDA0/IO66RSB0 (io), K12 GDB0/IO64RSB0 (io)
part B pins: B1 GAB2/IO69RSB1 (io), C1 IO132RSB1 (io), C2 GFA2/IO120RSB1 (io), C3 GAC2/IO131RSB1 (io), D1 IO128RSB1 (io), D2 IO129RSB1 (io), D3 IO130RSB1 (io), D4 GAA2/IO67RSB1 (io), E2 GFC0/IO125RSB1 (io), E3 GFC1/IO126RSB1 (io), E5 IO68RSB1 (io), F1 GFB0/IO123RSB1 (io), F3 GFB1/IO124RSB1 (io), F4 IO127RSB1 (io), G1 GFA1/IO121RSB1 (io), G4 GFA0/IO122RSB1 (io), H2 GFB2/IO119RSB1 (io), H3 GFC2/IO118RSB1 (io), H4 GEC1/IO112RSB1 (io), H8 GDB2/IO71RSB1 (io), J1 GEB1/IO110RSB1 (io), J2 IO115RSB1 (io), J4 GEC0/IO111RSB1 (io), J5 IO116RSB1 (io), J6 IO117RSB1 (io), J9 GDA2/IO70RSB1 (io), K1 GEB0/IO109RSB1 (io), K2 GEA1/IO108RSB1 (io), K3 GEA0/IO107RSB1 (io), K4 GEA2/IO106RSB1 (io), K5 IO100RSB1 (io), K6 IO98RSB1 (io), K8 IO73RSB1 (io), K9 GDC2/IO72RSB1 (io), L3 FF/GEB2/IO105RSB1 (io), L4 IO102RSB1 (io), L6 IO95RSB1 (io), L7 IO85RSB1 (io), L8 IO74RSB1 (io), M2 GEC2/IO104RSB1 (io), M3 IO103RSB1 (io), M4 IO101RSB1 (io), M5 IO97RSB1 (io), M6 IO94RSB1 (io), M7 IO86RSB1 (io), M8 IO75RSB1 (io)
part C pins: J8 TCK (in), J10 TDO (out), L9 TMS (in), L12 ~{TRST} (in), M9 TDI (in)
part D pins: A2 VMV0 (power), A8 VCC (power), B12 VMV0 (power), C4 VCC (power), E1 VCC (power), E4 VCCIB1 (power), E6 VCCIB0 (power), E7 VCCIB0 (power), E9 VCCIB0 (power), E10 VCC (power), H1 VCC (power), H5 VCC (power), H10 VCCIB0 (power), H12 VCC (power), J3 VCCIB1 (power), J7 VCC (power), L2 VMV1 (power), L5 VCCIB1 (power), L10 VJTAG (power), L11 VMV1 (power), M10 VCCIB1 (power), M11 VPUMP (power)
part E pins: A1 GNDQ (power), A6 GND (power), A12 GNDQ (power), B2 GND (power), B11 GND (power), F5 GND (power), F6 GND (power), F7 GND (power), F10 GND (power), G2 GND (power), G5 GND (power), G6 GND (power), G7 GND (power), K7 GND (power), K10 GND (power), L1 GND (power), M1 GNDQ (power), M12 GNDQ (power)
part F pins: F2 VCOMPLF (power), G3 VCCPLF (power)
part A text: BANK 0
part B text: BANK 1

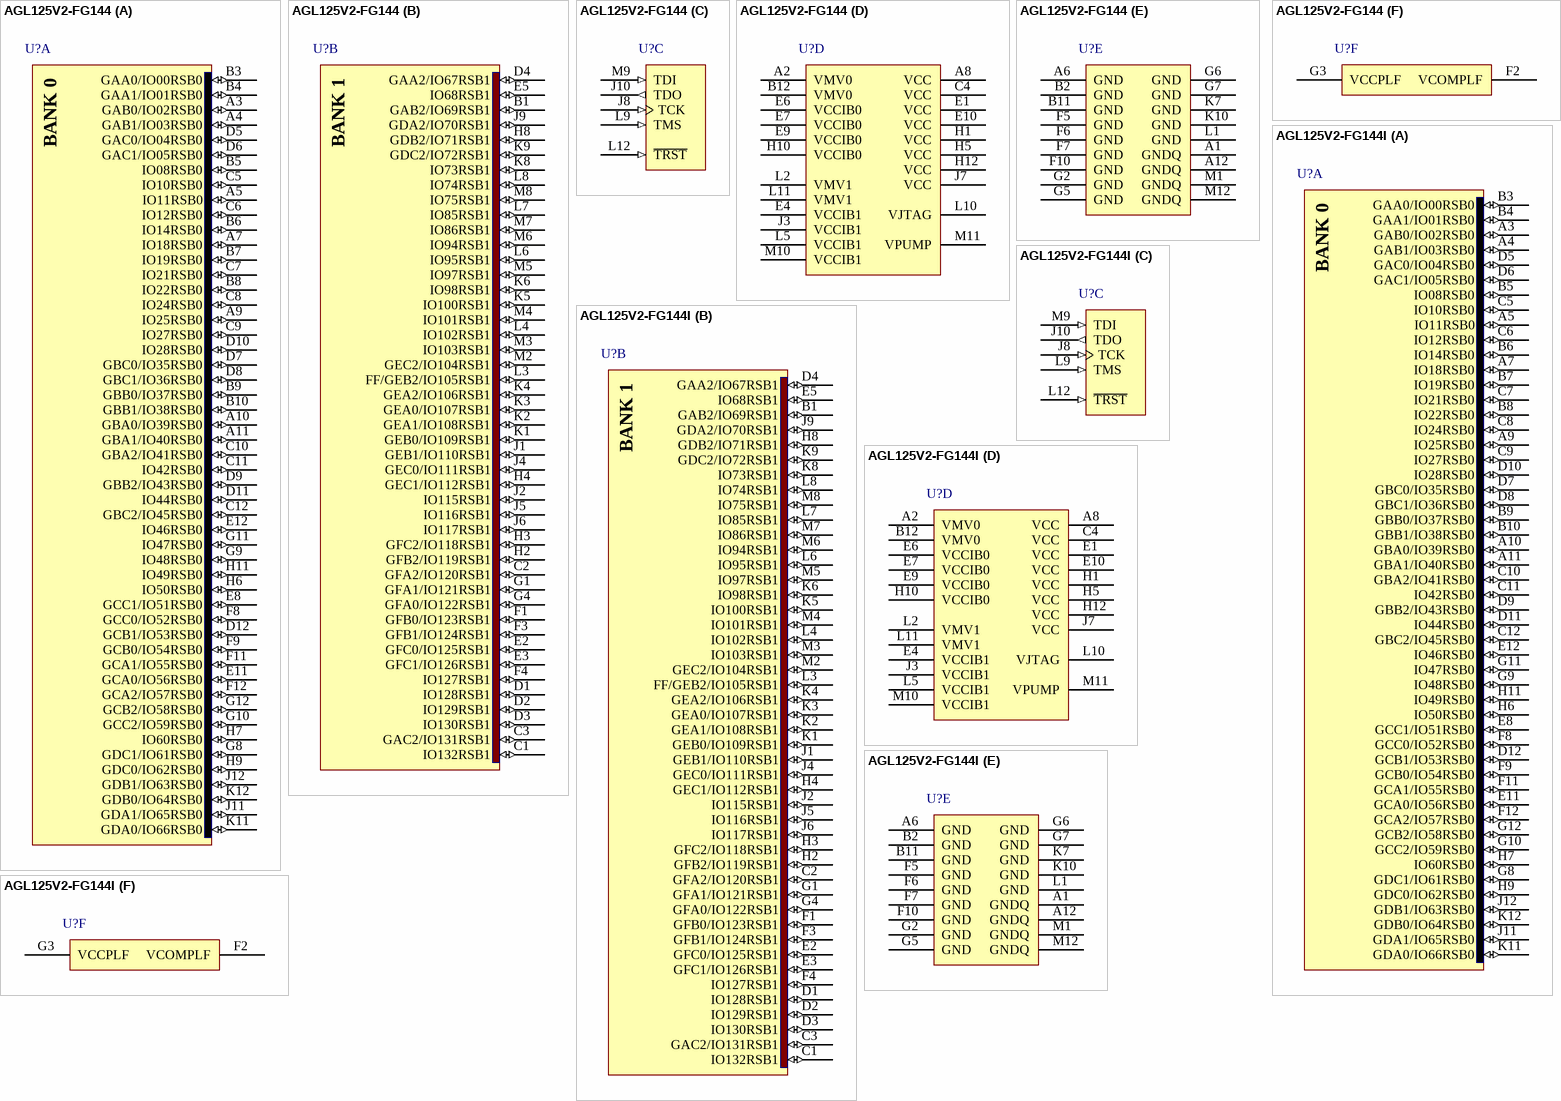
[diagram p35: symbols AGL125V2-FG144 to AGL125V2-FG144I]

## AGL125V2-FG144
designator U?
IGLOO Low-Power Flash 1.2/1.5V FPGA with Flash*Freeze, 97 User IOs, 125K System Gates, 36Kbits RAM, 1Kbit Flash ROM, 1 PLL, 144-Pin FBGA, Commercial Grade; DatasheetVersion: v2.0, Nov-2009; PackageVersion: rev39, Aug-2010; PackageReference: FG144; PackageDescription: 144-Ball Fine Pitch Plastic Ball Grid Array (FG144); Code_JEDEC: MO-192-DAD-1; ComponentLink1Description: Manufacturer URL; ComponentLink1URL: http://www.actel.com/; ComponentLink2Description: IGLOO Datasheet; ComponentLink2URL: http://www.actel.com/documents/IGLOO_DS.pdf; ComponentLink3Description: Package Mechanical Drawings; ComponentLink3URL: http://www.actel.com/documents/PckgMechDrwngs.pdf; ComponentLink4Description: IGLOO Documents; ComponentLink4URL: http://www.actel.com/products/igloo/docs.aspx
footprint FG144 (BGA, 144-Leads, Body 13x13mm, Pitch 1mm)
part A pins: A3 GAB0/IO02RSB0 (io), A4 GAB1/IO03RSB0 (io), A5 IO11RSB0 (io), A7 IO18RSB0 (io), A9 IO25RSB0 (io), A10 GBA0/IO39RSB0 (io), A11 GBA1/IO40RSB0 (io), B3 GAA0/IO00RSB0 (io), B4 GAA1/IO01RSB0 (io), B5 IO08RSB0 (io), B6 IO14RSB0 (io), B7 IO19RSB0 (io), B8 IO22RSB0 (io), B9 GBB0/IO37RSB0 (io), B10 GBB1/IO38RSB0 (io), C5 IO10RSB0 (io), C6 IO12RSB0 (io), C7 IO21RSB0 (io), C8 IO24RSB0 (io), C9 IO27RSB0 (io), C10 GBA2/IO41RSB0 (io), C11 IO42RSB0 (io), C12 GBC2/IO45RSB0 (io), D5 GAC0/IO04RSB0 (io), D6 GAC1/IO05RSB0 (io), D7 GBC0/IO35RSB0 (io), D8 GBC1/IO36RSB0 (io), D9 GBB2/IO43RSB0 (io), D10 IO28RSB0 (io), D11 IO44RSB0 (io), D12 GCB1/IO53RSB0 (io), E8 GCC1/IO51RSB0 (io), E11 GCA0/IO56RSB0 (io), E12 IO46RSB0 (io), F8 GCC0/IO52RSB0 (io), F9 GCB0/IO54RSB0 (io), F11 GCA1/IO55RSB0 (io), F12 GCA2/IO57RSB0 (io), G8 GDC1/IO61RSB0 (io), G9 IO48RSB0 (io), G10 GCC2/IO59RSB0 (io), G11 IO47RSB0 (io), G12 GCB2/IO58RSB0 (io), H6 IO50RSB0 (io), H7 IO60RSB0 (io), H9 GDC0/IO62RSB0 (io), H11 IO49RSB0 (io), J11 GDA1/IO65RSB0 (io), J12 GDB1/IO63RSB0 (io), K11 GDA0/IO66RSB0 (io), K12 GDB0/IO64RSB0 (io)
part B pins: B1 GAB2/IO69RSB1 (io), C1 IO132RSB1 (io), C2 GFA2/IO120RSB1 (io), C3 GAC2/IO131RSB1 (io), D1 IO128RSB1 (io), D2 IO129RSB1 (io), D3 IO130RSB1 (io), D4 GAA2/IO67RSB1 (io), E2 GFC0/IO125RSB1 (io), E3 GFC1/IO126RSB1 (io), E5 IO68RSB1 (io), F1 GFB0/IO123RSB1 (io), F3 GFB1/IO124RSB1 (io), F4 IO127RSB1 (io), G1 GFA1/IO121RSB1 (io), G4 GFA0/IO122RSB1 (io), H2 GFB2/IO119RSB1 (io), H3 GFC2/IO118RSB1 (io), H4 GEC1/IO112RSB1 (io), H8 GDB2/IO71RSB1 (io), J1 GEB1/IO110RSB1 (io), J2 IO115RSB1 (io), J4 GEC0/IO111RSB1 (io), J5 IO116RSB1 (io), J6 IO117RSB1 (io), J9 GDA2/IO70RSB1 (io), K1 GEB0/IO109RSB1 (io), K2 GEA1/IO108RSB1 (io), K3 GEA0/IO107RSB1 (io), K4 GEA2/IO106RSB1 (io), K5 IO100RSB1 (io), K6 IO98RSB1 (io), K8 IO73RSB1 (io), K9 GDC2/IO72RSB1 (io), L3 FF/GEB2/IO105RSB1 (io), L4 IO102RSB1 (io), L6 IO95RSB1 (io), L7 IO85RSB1 (io), L8 IO74RSB1 (io), M2 GEC2/IO104RSB1 (io), M3 IO103RSB1 (io), M4 IO101RSB1 (io), M5 IO97RSB1 (io), M6 IO94RSB1 (io), M7 IO86RSB1 (io), M8 IO75RSB1 (io)
part C pins: J8 TCK (in), J10 TDO (out), L9 TMS (in), L12 ~{TRST} (in), M9 TDI (in)
part D pins: A2 VMV0 (power), A8 VCC (power), B12 VMV0 (power), C4 VCC (power), E1 VCC (power), E4 VCCIB1 (power), E6 VCCIB0 (power), E7 VCCIB0 (power), E9 VCCIB0 (power), E10 VCC (power), H1 VCC (power), H5 VCC (power), H10 VCCIB0 (power), H12 VCC (power), J3 VCCIB1 (power), J7 VCC (power), L2 VMV1 (power), L5 VCCIB1 (power), L10 VJTAG (power), L11 VMV1 (power), M10 VCCIB1 (power), M11 VPUMP (power)
part E pins: A1 GNDQ (power), A6 GND (power), A12 GNDQ (power), B2 GND (power), B11 GND (power), F5 GND (power), F6 GND (power), F7 GND (power), F10 GND (power), G2 GND (power), G5 GND (power), G6 GND (power), G7 GND (power), K7 GND (power), K10 GND (power), L1 GND (power), M1 GNDQ (power), M12 GNDQ (power)
part F pins: F2 VCOMPLF (power), G3 VCCPLF (power)
part A text: BANK 0
part B text: BANK 1

## AGL125V2-FG144I
designator U?
IGLOO Low-Power Flash 1.2/1.5V FPGA with Flash*Freeze, 97 User IOs, 125K System Gates, 36Kbits RAM, 1Kbit Flash ROM, 1 PLL, 144-Pin FBGA, Industrial Grade; DatasheetVersion: v2.0, Nov-2009; PackageVersion: rev39, Aug-2010; PackageReference: FG144; PackageDescription: 144-Ball Fine Pitch Plastic Ball Grid Array (FG144); Code_JEDEC: MO-192-DAD-1; ComponentLink1Description: Manufacturer URL; ComponentLink1URL: http://www.actel.com/; ComponentLink2Description: IGLOO Datasheet; ComponentLink2URL: http://www.actel.com/documents/IGLOO_DS.pdf; ComponentLink3Description: Package Mechanical Drawings; ComponentLink3URL: http://www.actel.com/documents/PckgMechDrwngs.pdf; ComponentLink4Description: IGLOO Documents; ComponentLink4URL: http://www.actel.com/products/igloo/docs.aspx
footprint FG144 (BGA, 144-Leads, Body 13x13mm, Pitch 1mm)
part A pins: A3 GAB0/IO02RSB0 (io), A4 GAB1/IO03RSB0 (io), A5 IO11RSB0 (io), A7 IO18RSB0 (io), A9 IO25RSB0 (io), A10 GBA0/IO39RSB0 (io), A11 GBA1/IO40RSB0 (io), B3 GAA0/IO00RSB0 (io), B4 GAA1/IO01RSB0 (io), B5 IO08RSB0 (io), B6 IO14RSB0 (io), B7 IO19RSB0 (io), B8 IO22RSB0 (io), B9 GBB0/IO37RSB0 (io), B10 GBB1/IO38RSB0 (io), C5 IO10RSB0 (io), C6 IO12RSB0 (io), C7 IO21RSB0 (io), C8 IO24RSB0 (io), C9 IO27RSB0 (io), C10 GBA2/IO41RSB0 (io), C11 IO42RSB0 (io), C12 GBC2/IO45RSB0 (io), D5 GAC0/IO04RSB0 (io), D6 GAC1/IO05RSB0 (io), D7 GBC0/IO35RSB0 (io), D8 GBC1/IO36RSB0 (io), D9 GBB2/IO43RSB0 (io), D10 IO28RSB0 (io), D11 IO44RSB0 (io), D12 GCB1/IO53RSB0 (io), E8 GCC1/IO51RSB0 (io), E11 GCA0/IO56RSB0 (io), E12 IO46RSB0 (io), F8 GCC0/IO52RSB0 (io), F9 GCB0/IO54RSB0 (io), F11 GCA1/IO55RSB0 (io), F12 GCA2/IO57RSB0 (io), G8 GDC1/IO61RSB0 (io), G9 IO48RSB0 (io), G10 GCC2/IO59RSB0 (io), G11 IO47RSB0 (io), G12 GCB2/IO58RSB0 (io), H6 IO50RSB0 (io), H7 IO60RSB0 (io), H9 GDC0/IO62RSB0 (io), H11 IO49RSB0 (io), J11 GDA1/IO65RSB0 (io), J12 GDB1/IO63RSB0 (io), K11 GDA0/IO66RSB0 (io), K12 GDB0/IO64RSB0 (io)
part B pins: B1 GAB2/IO69RSB1 (io), C1 IO132RSB1 (io), C2 GFA2/IO120RSB1 (io), C3 GAC2/IO131RSB1 (io), D1 IO128RSB1 (io), D2 IO129RSB1 (io), D3 IO130RSB1 (io), D4 GAA2/IO67RSB1 (io), E2 GFC0/IO125RSB1 (io), E3 GFC1/IO126RSB1 (io), E5 IO68RSB1 (io), F1 GFB0/IO123RSB1 (io), F3 GFB1/IO124RSB1 (io), F4 IO127RSB1 (io), G1 GFA1/IO121RSB1 (io), G4 GFA0/IO122RSB1 (io), H2 GFB2/IO119RSB1 (io), H3 GFC2/IO118RSB1 (io), H4 GEC1/IO112RSB1 (io), H8 GDB2/IO71RSB1 (io), J1 GEB1/IO110RSB1 (io), J2 IO115RSB1 (io), J4 GEC0/IO111RSB1 (io), J5 IO116RSB1 (io), J6 IO117RSB1 (io), J9 GDA2/IO70RSB1 (io), K1 GEB0/IO109RSB1 (io), K2 GEA1/IO108RSB1 (io), K3 GEA0/IO107RSB1 (io), K4 GEA2/IO106RSB1 (io), K5 IO100RSB1 (io), K6 IO98RSB1 (io), K8 IO73RSB1 (io), K9 GDC2/IO72RSB1 (io), L3 FF/GEB2/IO105RSB1 (io), L4 IO102RSB1 (io), L6 IO95RSB1 (io), L7 IO85RSB1 (io), L8 IO74RSB1 (io), M2 GEC2/IO104RSB1 (io), M3 IO103RSB1 (io), M4 IO101RSB1 (io), M5 IO97RSB1 (io), M6 IO94RSB1 (io), M7 IO86RSB1 (io), M8 IO75RSB1 (io)
part C pins: J8 TCK (in), J10 TDO (out), L9 TMS (in), L12 ~{TRST} (in), M9 TDI (in)
part D pins: A2 VMV0 (power), A8 VCC (power), B12 VMV0 (power), C4 VCC (power), E1 VCC (power), E4 VCCIB1 (power), E6 VCCIB0 (power), E7 VCCIB0 (power), E9 VCCIB0 (power), E10 VCC (power), H1 VCC (power), H5 VCC (power), H10 VCCIB0 (power), H12 VCC (power), J3 VCCIB1 (power), J7 VCC (power), L2 VMV1 (power), L5 VCCIB1 (power), L10 VJTAG (power), L11 VMV1 (power), M10 VCCIB1 (power), M11 VPUMP (power)
part E pins: A1 GNDQ (power), A6 GND (power), A12 GNDQ (power), B2 GND (power), B11 GND (power), F5 GND (power), F6 GND (power), F7 GND (power), F10 GND (power), G2 GND (power), G5 GND (power), G6 GND (power), G7 GND (power), K7 GND (power), K10 GND (power), L1 GND (power), M1 GNDQ (power), M12 GNDQ (power)
part F pins: F2 VCOMPLF (power), G3 VCCPLF (power)
part A text: BANK 0
part B text: BANK 1

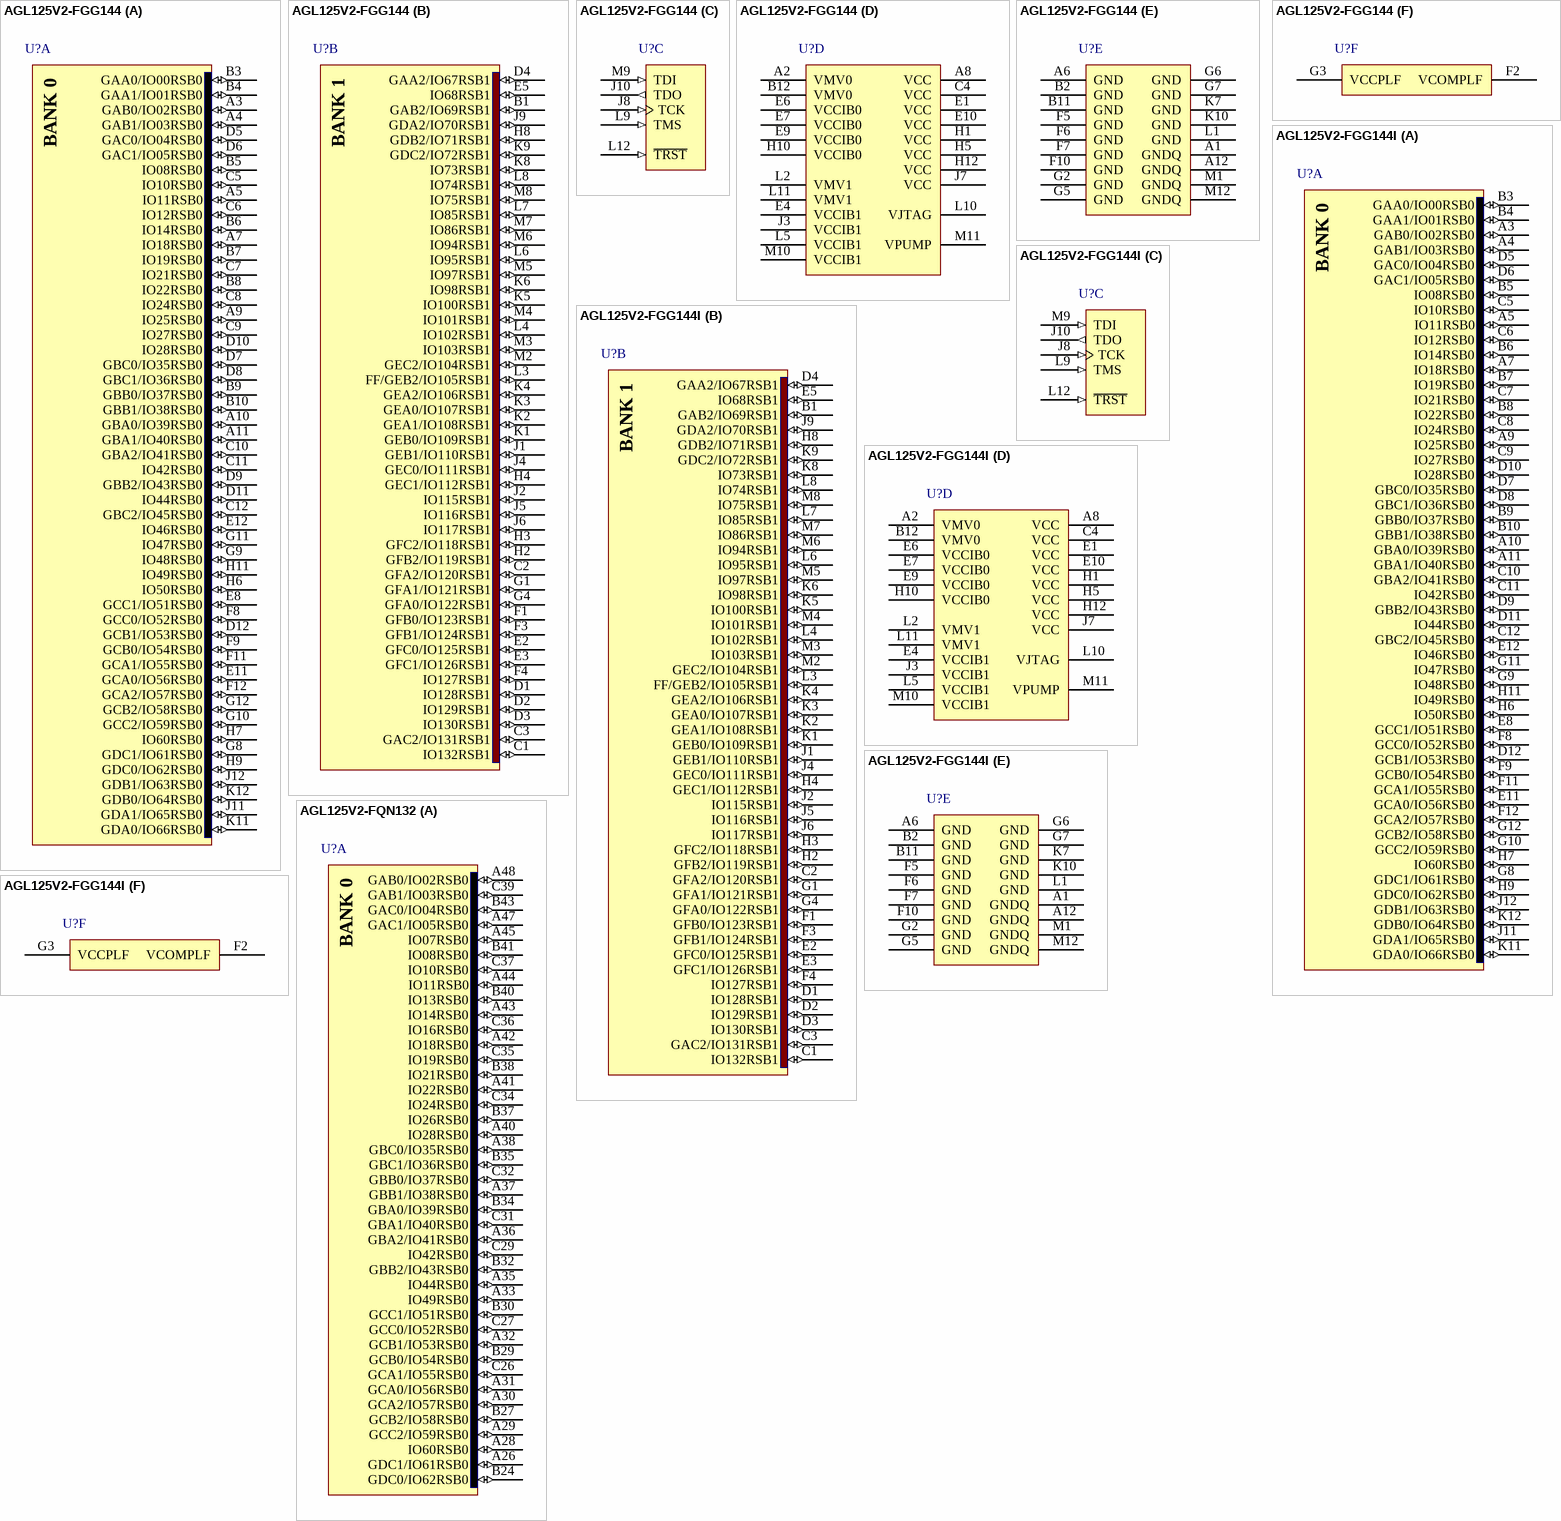
[diagram p36: symbols AGL125V2-FGG144 to AGL125V2-FQN132]

## AGL125V2-FGG144
designator U?
IGLOO Low-Power Flash 1.2/1.5V FPGA with Flash*Freeze, 97 User IOs, 125K System Gates, 36Kbits RAM, 1Kbit Flash ROM, 1 PLL, 144-Pin FBGA, Commercial Grade, Pb-Free; DatasheetVersion: v2.0, Nov-2009; PackageVersion: rev39, Aug-2010; PackageReference: FG144; PackageDescription: 144-Ball Fine Pitch Plastic Ball Grid Array (FG144); Code_JEDEC: MO-192-DAD-1; ComponentLink1Description: Manufacturer URL; ComponentLink1URL: http://www.actel.com/; ComponentLink2Description: IGLOO Datasheet; ComponentLink2URL: http://www.actel.com/documents/IGLOO_DS.pdf; ComponentLink3Description: Package Mechanical Drawings; ComponentLink3URL: http://www.actel.com/documents/PckgMechDrwngs.pdf; ComponentLink4Description: IGLOO Documents; ComponentLink4URL: http://www.actel.com/products/igloo/docs.aspx
footprint FG144 (BGA, 144-Leads, Body 13x13mm, Pitch 1mm)
part A pins: A3 GAB0/IO02RSB0 (io), A4 GAB1/IO03RSB0 (io), A5 IO11RSB0 (io), A7 IO18RSB0 (io), A9 IO25RSB0 (io), A10 GBA0/IO39RSB0 (io), A11 GBA1/IO40RSB0 (io), B3 GAA0/IO00RSB0 (io), B4 GAA1/IO01RSB0 (io), B5 IO08RSB0 (io), B6 IO14RSB0 (io), B7 IO19RSB0 (io), B8 IO22RSB0 (io), B9 GBB0/IO37RSB0 (io), B10 GBB1/IO38RSB0 (io), C5 IO10RSB0 (io), C6 IO12RSB0 (io), C7 IO21RSB0 (io), C8 IO24RSB0 (io), C9 IO27RSB0 (io), C10 GBA2/IO41RSB0 (io), C11 IO42RSB0 (io), C12 GBC2/IO45RSB0 (io), D5 GAC0/IO04RSB0 (io), D6 GAC1/IO05RSB0 (io), D7 GBC0/IO35RSB0 (io), D8 GBC1/IO36RSB0 (io), D9 GBB2/IO43RSB0 (io), D10 IO28RSB0 (io), D11 IO44RSB0 (io), D12 GCB1/IO53RSB0 (io), E8 GCC1/IO51RSB0 (io), E11 GCA0/IO56RSB0 (io), E12 IO46RSB0 (io), F8 GCC0/IO52RSB0 (io), F9 GCB0/IO54RSB0 (io), F11 GCA1/IO55RSB0 (io), F12 GCA2/IO57RSB0 (io), G8 GDC1/IO61RSB0 (io), G9 IO48RSB0 (io), G10 GCC2/IO59RSB0 (io), G11 IO47RSB0 (io), G12 GCB2/IO58RSB0 (io), H6 IO50RSB0 (io), H7 IO60RSB0 (io), H9 GDC0/IO62RSB0 (io), H11 IO49RSB0 (io), J11 GDA1/IO65RSB0 (io), J12 GDB1/IO63RSB0 (io), K11 GDA0/IO66RSB0 (io), K12 GDB0/IO64RSB0 (io)
part B pins: B1 GAB2/IO69RSB1 (io), C1 IO132RSB1 (io), C2 GFA2/IO120RSB1 (io), C3 GAC2/IO131RSB1 (io), D1 IO128RSB1 (io), D2 IO129RSB1 (io), D3 IO130RSB1 (io), D4 GAA2/IO67RSB1 (io), E2 GFC0/IO125RSB1 (io), E3 GFC1/IO126RSB1 (io), E5 IO68RSB1 (io), F1 GFB0/IO123RSB1 (io), F3 GFB1/IO124RSB1 (io), F4 IO127RSB1 (io), G1 GFA1/IO121RSB1 (io), G4 GFA0/IO122RSB1 (io), H2 GFB2/IO119RSB1 (io), H3 GFC2/IO118RSB1 (io), H4 GEC1/IO112RSB1 (io), H8 GDB2/IO71RSB1 (io), J1 GEB1/IO110RSB1 (io), J2 IO115RSB1 (io), J4 GEC0/IO111RSB1 (io), J5 IO116RSB1 (io), J6 IO117RSB1 (io), J9 GDA2/IO70RSB1 (io), K1 GEB0/IO109RSB1 (io), K2 GEA1/IO108RSB1 (io), K3 GEA0/IO107RSB1 (io), K4 GEA2/IO106RSB1 (io), K5 IO100RSB1 (io), K6 IO98RSB1 (io), K8 IO73RSB1 (io), K9 GDC2/IO72RSB1 (io), L3 FF/GEB2/IO105RSB1 (io), L4 IO102RSB1 (io), L6 IO95RSB1 (io), L7 IO85RSB1 (io), L8 IO74RSB1 (io), M2 GEC2/IO104RSB1 (io), M3 IO103RSB1 (io), M4 IO101RSB1 (io), M5 IO97RSB1 (io), M6 IO94RSB1 (io), M7 IO86RSB1 (io), M8 IO75RSB1 (io)
part C pins: J8 TCK (in), J10 TDO (out), L9 TMS (in), L12 ~{TRST} (in), M9 TDI (in)
part D pins: A2 VMV0 (power), A8 VCC (power), B12 VMV0 (power), C4 VCC (power), E1 VCC (power), E4 VCCIB1 (power), E6 VCCIB0 (power), E7 VCCIB0 (power), E9 VCCIB0 (power), E10 VCC (power), H1 VCC (power), H5 VCC (power), H10 VCCIB0 (power), H12 VCC (power), J3 VCCIB1 (power), J7 VCC (power), L2 VMV1 (power), L5 VCCIB1 (power), L10 VJTAG (power), L11 VMV1 (power), M10 VCCIB1 (power), M11 VPUMP (power)
part E pins: A1 GNDQ (power), A6 GND (power), A12 GNDQ (power), B2 GND (power), B11 GND (power), F5 GND (power), F6 GND (power), F7 GND (power), F10 GND (power), G2 GND (power), G5 GND (power), G6 GND (power), G7 GND (power), K7 GND (power), K10 GND (power), L1 GND (power), M1 GNDQ (power), M12 GNDQ (power)
part F pins: F2 VCOMPLF (power), G3 VCCPLF (power)
part A text: BANK 0
part B text: BANK 1

## AGL125V2-FGG144I
designator U?
IGLOO Low-Power Flash 1.2/1.5V FPGA with Flash*Freeze, 97 User IOs, 125K System Gates, 36Kbits RAM, 1Kbit Flash ROM, 1 PLL, 144-Pin FBGA, Industrial Grade, Pb-Free; DatasheetVersion: v2.0, Nov-2009; PackageVersion: rev39, Aug-2010; PackageReference: FG144; PackageDescription: 144-Ball Fine Pitch Plastic Ball Grid Array (FG144); Code_JEDEC: MO-192-DAD-1; ComponentLink1Description: Manufacturer URL; ComponentLink1URL: http://www.actel.com/; ComponentLink2Description: IGLOO Datasheet; ComponentLink2URL: http://www.actel.com/documents/IGLOO_DS.pdf; ComponentLink3Description: Package Mechanical Drawings; ComponentLink3URL: http://www.actel.com/documents/PckgMechDrwngs.pdf; ComponentLink4Description: IGLOO Documents; ComponentLink4URL: http://www.actel.com/products/igloo/docs.aspx
footprint FG144 (BGA, 144-Leads, Body 13x13mm, Pitch 1mm)
part A pins: A3 GAB0/IO02RSB0 (io), A4 GAB1/IO03RSB0 (io), A5 IO11RSB0 (io), A7 IO18RSB0 (io), A9 IO25RSB0 (io), A10 GBA0/IO39RSB0 (io), A11 GBA1/IO40RSB0 (io), B3 GAA0/IO00RSB0 (io), B4 GAA1/IO01RSB0 (io), B5 IO08RSB0 (io), B6 IO14RSB0 (io), B7 IO19RSB0 (io), B8 IO22RSB0 (io), B9 GBB0/IO37RSB0 (io), B10 GBB1/IO38RSB0 (io), C5 IO10RSB0 (io), C6 IO12RSB0 (io), C7 IO21RSB0 (io), C8 IO24RSB0 (io), C9 IO27RSB0 (io), C10 GBA2/IO41RSB0 (io), C11 IO42RSB0 (io), C12 GBC2/IO45RSB0 (io), D5 GAC0/IO04RSB0 (io), D6 GAC1/IO05RSB0 (io), D7 GBC0/IO35RSB0 (io), D8 GBC1/IO36RSB0 (io), D9 GBB2/IO43RSB0 (io), D10 IO28RSB0 (io), D11 IO44RSB0 (io), D12 GCB1/IO53RSB0 (io), E8 GCC1/IO51RSB0 (io), E11 GCA0/IO56RSB0 (io), E12 IO46RSB0 (io), F8 GCC0/IO52RSB0 (io), F9 GCB0/IO54RSB0 (io), F11 GCA1/IO55RSB0 (io), F12 GCA2/IO57RSB0 (io), G8 GDC1/IO61RSB0 (io), G9 IO48RSB0 (io), G10 GCC2/IO59RSB0 (io), G11 IO47RSB0 (io), G12 GCB2/IO58RSB0 (io), H6 IO50RSB0 (io), H7 IO60RSB0 (io), H9 GDC0/IO62RSB0 (io), H11 IO49RSB0 (io), J11 GDA1/IO65RSB0 (io), J12 GDB1/IO63RSB0 (io), K11 GDA0/IO66RSB0 (io), K12 GDB0/IO64RSB0 (io)
part B pins: B1 GAB2/IO69RSB1 (io), C1 IO132RSB1 (io), C2 GFA2/IO120RSB1 (io), C3 GAC2/IO131RSB1 (io), D1 IO128RSB1 (io), D2 IO129RSB1 (io), D3 IO130RSB1 (io), D4 GAA2/IO67RSB1 (io), E2 GFC0/IO125RSB1 (io), E3 GFC1/IO126RSB1 (io), E5 IO68RSB1 (io), F1 GFB0/IO123RSB1 (io), F3 GFB1/IO124RSB1 (io), F4 IO127RSB1 (io), G1 GFA1/IO121RSB1 (io), G4 GFA0/IO122RSB1 (io), H2 GFB2/IO119RSB1 (io), H3 GFC2/IO118RSB1 (io), H4 GEC1/IO112RSB1 (io), H8 GDB2/IO71RSB1 (io), J1 GEB1/IO110RSB1 (io), J2 IO115RSB1 (io), J4 GEC0/IO111RSB1 (io), J5 IO116RSB1 (io), J6 IO117RSB1 (io), J9 GDA2/IO70RSB1 (io), K1 GEB0/IO109RSB1 (io), K2 GEA1/IO108RSB1 (io), K3 GEA0/IO107RSB1 (io), K4 GEA2/IO106RSB1 (io), K5 IO100RSB1 (io), K6 IO98RSB1 (io), K8 IO73RSB1 (io), K9 GDC2/IO72RSB1 (io), L3 FF/GEB2/IO105RSB1 (io), L4 IO102RSB1 (io), L6 IO95RSB1 (io), L7 IO85RSB1 (io), L8 IO74RSB1 (io), M2 GEC2/IO104RSB1 (io), M3 IO103RSB1 (io), M4 IO101RSB1 (io), M5 IO97RSB1 (io), M6 IO94RSB1 (io), M7 IO86RSB1 (io), M8 IO75RSB1 (io)
part C pins: J8 TCK (in), J10 TDO (out), L9 TMS (in), L12 ~{TRST} (in), M9 TDI (in)
part D pins: A2 VMV0 (power), A8 VCC (power), B12 VMV0 (power), C4 VCC (power), E1 VCC (power), E4 VCCIB1 (power), E6 VCCIB0 (power), E7 VCCIB0 (power), E9 VCCIB0 (power), E10 VCC (power), H1 VCC (power), H5 VCC (power), H10 VCCIB0 (power), H12 VCC (power), J3 VCCIB1 (power), J7 VCC (power), L2 VMV1 (power), L5 VCCIB1 (power), L10 VJTAG (power), L11 VMV1 (power), M10 VCCIB1 (power), M11 VPUMP (power)
part E pins: A1 GNDQ (power), A6 GND (power), A12 GNDQ (power), B2 GND (power), B11 GND (power), F5 GND (power), F6 GND (power), F7 GND (power), F10 GND (power), G2 GND (power), G5 GND (power), G6 GND (power), G7 GND (power), K7 GND (power), K10 GND (power), L1 GND (power), M1 GNDQ (power), M12 GNDQ (power)
part F pins: F2 VCOMPLF (power), G3 VCCPLF (power)
part A text: BANK 0
part B text: BANK 1

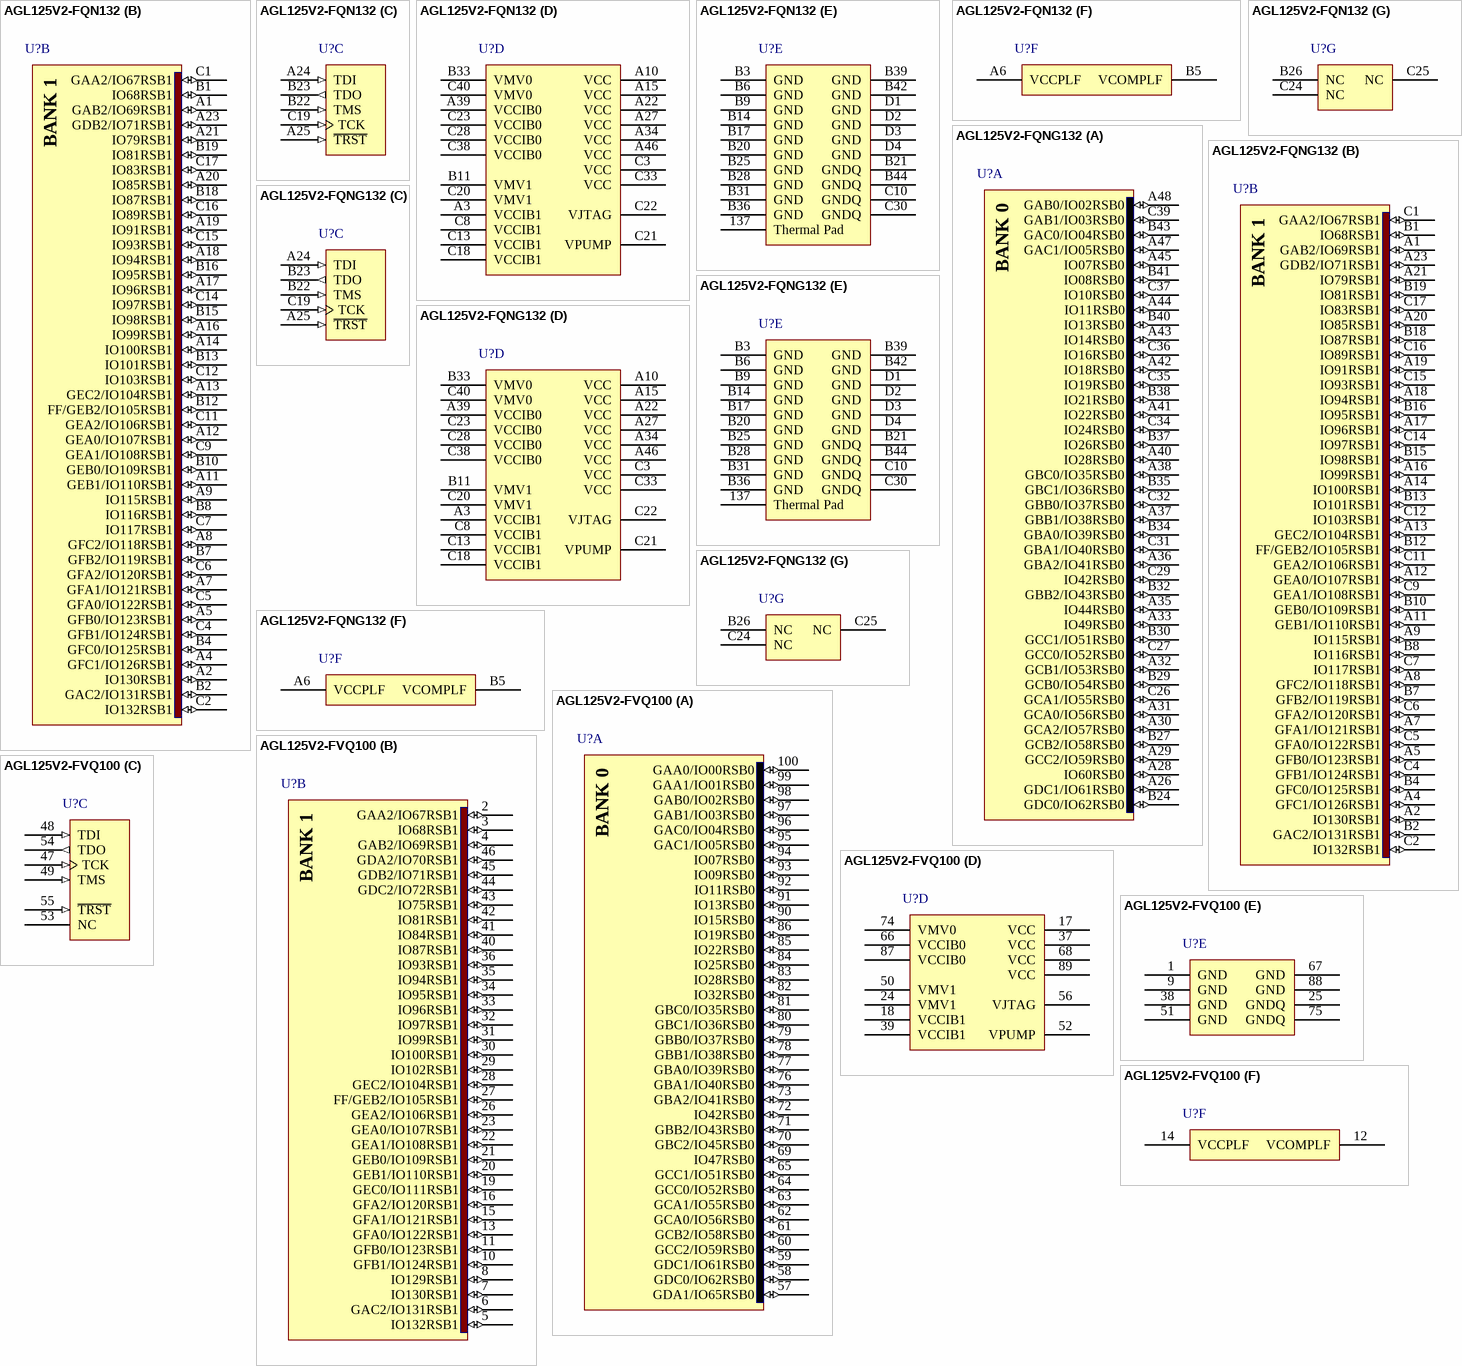
[diagram p37: symbols AGL125V2-FQN132 to AGL125V2-FVQ100]

## AGL125V2-FQN132
designator U?
IGLOO Low-Power Flash 1.2/1.5V FPGA with Flash*Freeze, 84 User IOs, 125K System Gates, 36Kbits RAM, 1Kbit Flash ROM, 1 PLL, 132-Pin QFN, F Speed Grade, Commercial Grade; DatasheetVersion: v1.2, Feb-2008; PackageVersion: ver11.2, Nov-2009; PackageReference: QN132; PackageDescription: 132-Pin Quad Flat Pack No-Leads (QN132); ComponentLink1Description: Manufacturer URL; ComponentLink1URL: http://www.actel.com/; ComponentLink2Description: IGLOO Datasheet; ComponentLink2URL: http://www.actel.com/documents/IGLOO_DS.pdf; ComponentLink3Description: Package Mechanical Drawings; ComponentLink3URL: http://www.actel.com/documents/PckgMechDrwngs.pdf; ComponentLink4Description: IGLOO Documents; ComponentLink4URL: http://www.actel.com/products/igloo/docs.aspx
footprint QN132 (QFN, 137-Leads, Body 8x8mm, Pitch 0.5mm, Thermal Pad 4.7x4.7mm)
part A pins: A26 GDC1/IO61RSB0 (io), A28 IO60RSB0 (io), A29 GCC2/IO59RSB0 (io), A30 GCA2/IO57RSB0 (io), A31 GCA0/IO56RSB0 (io), A32 GCB1/IO53RSB0 (io), A33 IO49RSB0 (io), A35 IO44RSB0 (io), A36 GBA2/IO41RSB0 (io), A37 GBB1/IO38RSB0 (io), A38 GBC0/IO35RSB0 (io), A40 IO28RSB0 (io), A41 IO22RSB0 (io), A42 IO18RSB0 (io), A43 IO14RSB0 (io), A44 IO11RSB0 (io), A45 IO07RSB0 (io), A47 GAC1/IO05RSB0 (io), A48 GAB0/IO02RSB0 (io), B24 GDC0/IO62RSB0 (io), B27 GCB2/IO58RSB0 (io), B29 GCB0/IO54RSB0 (io), B30 GCC1/IO51RSB0 (io), B32 GBB2/IO43RSB0 (io), B34 GBA0/IO39RSB0 (io), B35 GBC1/IO36RSB0 (io), B37 IO26RSB0 (io), B38 IO21RSB0 (io), B40 IO13RSB0 (io), B41 IO08RSB0 (io), B43 GAC0/IO04RSB0 (io), C26 GCA1/IO55RSB0 (io), C27 GCC0/IO52RSB0 (io), C29 IO42RSB0 (io), C31 GBA1/IO40RSB0 (io), C32 GBB0/IO37RSB0 (io), C34 IO24RSB0 (io), C35 IO19RSB0 (io), C36 IO16RSB0 (io), C37 IO10RSB0 (io), C39 GAB1/IO03RSB0 (io)
part B pins: A1 GAB2/IO69RSB1 (io), A2 IO130RSB1 (io), A4 GFC1/IO126RSB1 (io), A5 GFB0/IO123RSB1 (io), A7 GFA1/IO121RSB1 (io), A8 GFC2/IO118RSB1 (io), A9 IO115RSB1 (io), A11 GEB1/IO110RSB1 (io), A12 GEA0/IO107RSB1 (io), A13 GEC2/IO104RSB1 (io), A14 IO100RSB1 (io), A16 IO99RSB1 (io), A17 IO96RSB1 (io), A18 IO94RSB1 (io), A19 IO91RSB1 (io), A20 IO85RSB1 (io), A21 IO79RSB1 (io), A23 GDB2/IO71RSB1 (io), B1 IO68RSB1 (io), B2 GAC2/IO131RSB1 (io), B4 GFC0/IO125RSB1 (io), B7 GFB2/IO119RSB1 (io), B8 IO116RSB1 (io), B10 GEB0/IO109RSB1 (io), B12 FF/GEB2/IO105RSB1 (io), B13 IO101RSB1 (io), B15 IO98RSB1 (io), B16 IO95RSB1 (io), B18 IO87RSB1 (io), B19 IO81RSB1 (io), C1 GAA2/IO67RSB1 (io), C2 IO132RSB1 (io), C4 GFB1/IO124RSB1 (io), C5 GFA0/IO122RSB1 (io), C6 GFA2/IO120RSB1 (io), C7 IO117RSB1 (io), C9 GEA1/IO108RSB1 (io), C11 GEA2/IO106RSB1 (io), C12 IO103RSB1 (io), C14 IO97RSB1 (io), C15 IO93RSB1 (io), C16 IO89RSB1 (io), C17 IO83RSB1 (io)
part C pins: A24 TDI (in), A25 ~{TRST} (in), B22 TMS (in), B23 TDO (out), C19 TCK (in)
part D pins: A3 VCCIB1 (power), A10 VCC (power), A15 VCC (power), A22 VCC (power), A27 VCC (power), A34 VCC (power), A39 VCCIB0 (power), A46 VCC (power), B11 VMV1 (power), B33 VMV0 (power), C3 VCC (power), C8 VCCIB1 (power), C13 VCCIB1 (power), C18 VCCIB1 (power), C20 VMV1 (power), C21 VPUMP (power), C22 VJTAG (power), C23 VCCIB0 (power), C28 VCCIB0 (power), C33 VCC (power), C38 VCCIB0 (power), C40 VMV0 (power)
part E pins: 137 Thermal Pad, B3 GND (power), B6 GND (power), B9 GND (power), B14 GND (power), B17 GND (power), B20 GND (power), B21 GNDQ (power), B25 GND (power), B28 GND (power), B31 GND (power), B36 GND (power), B39 GND (power), B42 GND (power), B44 GNDQ (power), C10 GNDQ (power), C30 GNDQ (power), D1 GND (power), D2 GND (power), D3 GND (power), D4 GND (power)
part F pins: A6 VCCPLF (power), B5 VCOMPLF (power)
part G pins: B26 NC, C24 NC, C25 NC
part A text: BANK 0
part B text: BANK 1

## AGL125V2-FQNG132
designator U?
IGLOO Low-Power Flash 1.2/1.5V FPGA with Flash*Freeze, 84 User IOs, 125K System Gates, 36Kbits RAM, 1Kbit Flash ROM, 1 PLL, 132-Pin QFN, F Speed Grade, Commercial Grade, Pb-Free; DatasheetVersion: v1.2, Feb-2008; PackageVersion: ver11.2, Nov-2009; PackageReference: QN132; PackageDescription: 132-Pin Quad Flat Pack No-Leads (QN132); ComponentLink1Description: Manufacturer URL; ComponentLink1URL: http://www.actel.com/; ComponentLink2Description: IGLOO Datasheet; ComponentLink2URL: http://www.actel.com/documents/IGLOO_DS.pdf; ComponentLink3Description: Package Mechanical Drawings; ComponentLink3URL: http://www.actel.com/documents/PckgMechDrwngs.pdf; ComponentLink4Description: IGLOO Documents; ComponentLink4URL: http://www.actel.com/products/igloo/docs.aspx
footprint QN132 (QFN, 137-Leads, Body 8x8mm, Pitch 0.5mm, Thermal Pad 4.7x4.7mm)
part A pins: A26 GDC1/IO61RSB0 (io), A28 IO60RSB0 (io), A29 GCC2/IO59RSB0 (io), A30 GCA2/IO57RSB0 (io), A31 GCA0/IO56RSB0 (io), A32 GCB1/IO53RSB0 (io), A33 IO49RSB0 (io), A35 IO44RSB0 (io), A36 GBA2/IO41RSB0 (io), A37 GBB1/IO38RSB0 (io), A38 GBC0/IO35RSB0 (io), A40 IO28RSB0 (io), A41 IO22RSB0 (io), A42 IO18RSB0 (io), A43 IO14RSB0 (io), A44 IO11RSB0 (io), A45 IO07RSB0 (io), A47 GAC1/IO05RSB0 (io), A48 GAB0/IO02RSB0 (io), B24 GDC0/IO62RSB0 (io), B27 GCB2/IO58RSB0 (io), B29 GCB0/IO54RSB0 (io), B30 GCC1/IO51RSB0 (io), B32 GBB2/IO43RSB0 (io), B34 GBA0/IO39RSB0 (io), B35 GBC1/IO36RSB0 (io), B37 IO26RSB0 (io), B38 IO21RSB0 (io), B40 IO13RSB0 (io), B41 IO08RSB0 (io), B43 GAC0/IO04RSB0 (io), C26 GCA1/IO55RSB0 (io), C27 GCC0/IO52RSB0 (io), C29 IO42RSB0 (io), C31 GBA1/IO40RSB0 (io), C32 GBB0/IO37RSB0 (io), C34 IO24RSB0 (io), C35 IO19RSB0 (io), C36 IO16RSB0 (io), C37 IO10RSB0 (io), C39 GAB1/IO03RSB0 (io)
part B pins: A1 GAB2/IO69RSB1 (io), A2 IO130RSB1 (io), A4 GFC1/IO126RSB1 (io), A5 GFB0/IO123RSB1 (io), A7 GFA1/IO121RSB1 (io), A8 GFC2/IO118RSB1 (io), A9 IO115RSB1 (io), A11 GEB1/IO110RSB1 (io), A12 GEA0/IO107RSB1 (io), A13 GEC2/IO104RSB1 (io), A14 IO100RSB1 (io), A16 IO99RSB1 (io), A17 IO96RSB1 (io), A18 IO94RSB1 (io), A19 IO91RSB1 (io), A20 IO85RSB1 (io), A21 IO79RSB1 (io), A23 GDB2/IO71RSB1 (io), B1 IO68RSB1 (io), B2 GAC2/IO131RSB1 (io), B4 GFC0/IO125RSB1 (io), B7 GFB2/IO119RSB1 (io), B8 IO116RSB1 (io), B10 GEB0/IO109RSB1 (io), B12 FF/GEB2/IO105RSB1 (io), B13 IO101RSB1 (io), B15 IO98RSB1 (io), B16 IO95RSB1 (io), B18 IO87RSB1 (io), B19 IO81RSB1 (io), C1 GAA2/IO67RSB1 (io), C2 IO132RSB1 (io), C4 GFB1/IO124RSB1 (io), C5 GFA0/IO122RSB1 (io), C6 GFA2/IO120RSB1 (io), C7 IO117RSB1 (io), C9 GEA1/IO108RSB1 (io), C11 GEA2/IO106RSB1 (io), C12 IO103RSB1 (io), C14 IO97RSB1 (io), C15 IO93RSB1 (io), C16 IO89RSB1 (io), C17 IO83RSB1 (io)
part C pins: A24 TDI (in), A25 ~{TRST} (in), B22 TMS (in), B23 TDO (out), C19 TCK (in)
part D pins: A3 VCCIB1 (power), A10 VCC (power), A15 VCC (power), A22 VCC (power), A27 VCC (power), A34 VCC (power), A39 VCCIB0 (power), A46 VCC (power), B11 VMV1 (power), B33 VMV0 (power), C3 VCC (power), C8 VCCIB1 (power), C13 VCCIB1 (power), C18 VCCIB1 (power), C20 VMV1 (power), C21 VPUMP (power), C22 VJTAG (power), C23 VCCIB0 (power), C28 VCCIB0 (power), C33 VCC (power), C38 VCCIB0 (power), C40 VMV0 (power)
part E pins: 137 Thermal Pad, B3 GND (power), B6 GND (power), B9 GND (power), B14 GND (power), B17 GND (power), B20 GND (power), B21 GNDQ (power), B25 GND (power), B28 GND (power), B31 GND (power), B36 GND (power), B39 GND (power), B42 GND (power), B44 GNDQ (power), C10 GNDQ (power), C30 GNDQ (power), D1 GND (power), D2 GND (power), D3 GND (power), D4 GND (power)
part F pins: A6 VCCPLF (power), B5 VCOMPLF (power)
part G pins: B26 NC, C24 NC, C25 NC
part A text: BANK 0
part B text: BANK 1